# Altium schematic symbol library HV9006_MEASUREBOARD.SCHLIB: 178 symbols
Pins are listed as number, name and electrical type; pins without a type are passive.

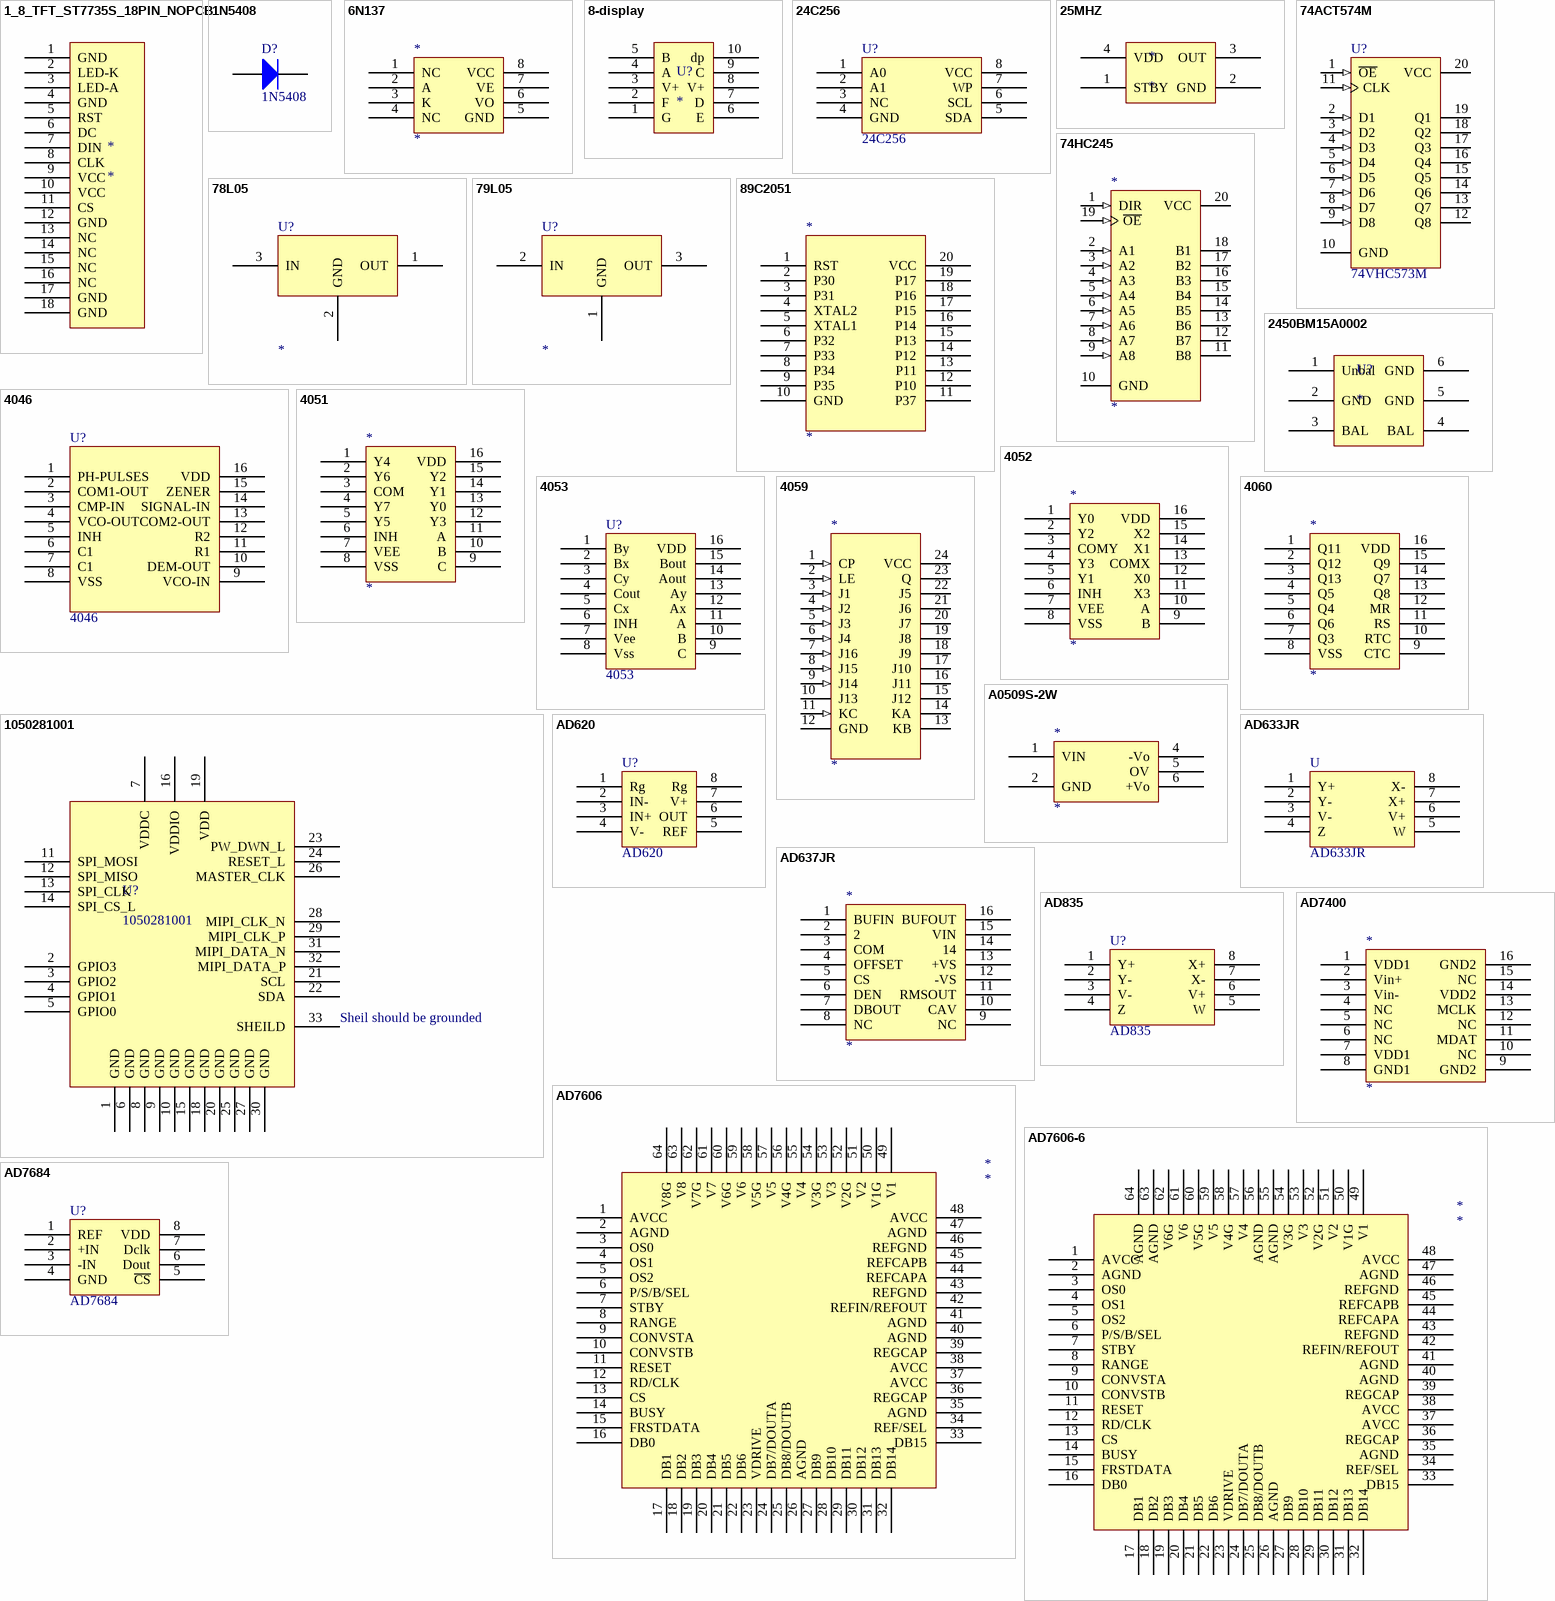
[diagram p0: symbols 1_8_TFT_ST7735S_18PIN_NOPCB to AD7684]

## 1_8_TFT_ST7735S_18PIN_NOPCB
designator *
pins: 1 GND, 2 LED-K, 3 LED-A, 4 GND, 5 RST, 6 DC, 7 DIN, 8 CLK, 9 VCC, 10 VCC, 11 CS, 12 GND, 13 NC, 14 NC, 15 NC, 16 NC, 17 GND, 18 GND

## 1N5408
designator D?
Manufacturer: Generic Components; Class: Discrete; SubClass: Diode - Switching; Published: 08/06/2000; Publisher: Altium Hobart Technology Centre
footprint 1N5408
footprint SMD0603
footprint SMD0805
footprint SOD-123
pins: 1 A, 2 K

## 6N137
designator *
footprint DIP8 (Model Description)
pins: 1 NC, 2 A, 3 K, 4 NC, 5 GND, 6 VO, 7 VE, 8 VCC

## 8-display
designator U?
footprint 7SEG-CA
pins: 1 G, 2 F, 3 V+, 4 A, 5 B, 6 E, 7 D, 8 V+, 9 C, 10 dp

## 24C256
designator U?
footprint SOP8 (Model Description)
pins: 1 A0, 2 A1, 3 NC, 4 GND, 5 SDA, 6 SCL, 7 WP, 8 VCC

## 25MHZ
designator *
footprint 25MHZ
pins: 1 STBY, 2 GND, 3 OUT, 4 VDD

## 74ACT574M
designator U?, comment 74VHC573M
Octal D-Type Flip-Flop with 3-State Output Non Inverting; Manufacturer: ST-Microelectronics; Class: Logic; Published: 08/06/2000; Publisher: Altium Hobart Technology Centre; SubClass: Flip-Flop
footprint SOP20
signal-integrity model 74ACT574M
pins: 1 ~{OE} (in), 2 D1 (in), 3 D2 (in), 4 D3 (in), 5 D4 (in), 6 D5 (in), 7 D6 (in), 8 D7 (in), 9 D8 (in), 10 GND (power), 11 CLK (in), 12 Q8 (hiz), 13 Q7 (hiz), 14 Q6 (hiz), 15 Q5 (hiz), 16 Q4 (hiz), 17 Q3 (hiz), 18 Q2 (hiz), 19 Q1 (hiz), 20 VCC (power)

## 74HC245
designator *
footprint SOP20 (Model Description)
pins: 1 DIR (in), 2 A1 (in), 3 A2 (in), 4 A3 (in), 5 A4 (in), 6 A5 (in), 7 A6 (in), 8 A7 (in), 9 A8 (in), 10 GND (power), 11 B8 (hiz), 12 B7 (hiz), 13 B6 (hiz), 14 B5 (hiz), 15 B4 (hiz), 16 B3 (hiz), 17 B2 (hiz), 18 B1 (hiz), 19 ~{OE} (in), 20 VCC (power)

## 78L05
designator U?
footprint SOT89 (Model Description)
pins: 1 OUT, 2 GND, 3 IN

## 79L05
designator U?
footprint SOT89 (Model Description)
pins: 1 GND, 2 IN, 3 OUT

## 89C2051
designator *
footprint DIP20 (Model Description)
pins: 1 RST, 2 P30, 3 P31, 4 XTAL2, 5 XTAL1, 6 P32, 7 P33, 8 P34, 9 P35, 10 GND, 11 P37, 12 P10, 13 P11, 14 P12, 15 P13, 16 P14, 17 P15, 18 P16, 19 P17, 20 VCC

## 2450BM15A0002
designator U?
footprint 2450BM15A0002
pins: 1 Unbal, 2 GND, 3 BAL, 4 BAL, 5 GND, 6 GND

## 4046
designator U?
footprint SOP16 (Model Description)
pins: 1 PH-PULSES, 2 COM1-OUT, 3 CMP-IN, 4 VCO-OUT, 5 INH, 6 C1, 7 C1, 8 VSS, 9 VCO-IN, 10 DEM-OUT, 11 R1, 12 R2, 13 COM2-OUT, 14 SIGNAL-IN, 15 ZENER, 16 VDD

## 4051
designator *
pins: 1 Y4, 2 Y6, 3 COM, 4 Y7, 5 Y5, 6 INH, 7 VEE, 8 VSS, 9 C, 10 B, 11 A, 12 Y3, 13 Y0, 14 Y1, 15 Y2, 16 VDD

## 4052
designator *
footprint SOP16 (Model Description)
pins: 1 Y0, 2 Y2, 3 COMY, 4 Y3, 5 Y1, 6 INH, 7 VEE, 8 VSS, 9 B, 10 A, 11 X3, 12 X0, 13 COMX, 14 X1, 15 X2, 16 VDD

## 4053
designator U?
footprint SOP16 (Model Description)
pins: 1 By, 2 Bx, 3 Cy, 4 Cout, 5 Cx, 6 INH, 7 Vee, 8 Vss, 9 C, 10 B, 11 A, 12 Ax, 13 Ay, 14 Aout, 15 Bout, 16 VDD

## 4059
designator *
footprint SOP24 (Model Description)
pins: 1 CP (in), 2 LE (in), 3 J1 (in), 4 J2 (in), 5 J3 (in), 6 J4 (in), 7 J16 (in), 8 J15 (in), 9 J14 (in), 10 J13 (power), 11 KC (in), 12 GND (hiz), 13 KB (hiz), 14 KA (hiz), 15 J12 (hiz), 16 J11 (hiz), 17 J10 (hiz), 18 J9 (hiz), 19 J8 (hiz), 20 J7 (power), 21 J6, 22 J5, 23 Q, 24 VCC

## 4060
designator *
footprint SOP16 (Model Description)
pins: 1 Q11, 2 Q12, 3 Q13, 4 Q5, 5 Q4, 6 Q6, 7 Q3, 8 VSS, 9 CTC, 10 RTC, 11 RS, 12 MR, 13 Q8, 14 Q7, 15 Q9, 16 VDD

## 1050281001
designator U?
footprint FLIR_Camera_Socket
pins: 1 GND, 2 GPIO3, 3 GPIO2, 4 GPIO1, 5 GPIO0, 6 GND, 7 VDDC, 8 GND, 9 GND, 10 GND, 11 SPI_MOSI, 12 SPI_MISO, 13 SPI_CLK, 14 SPI_CS_L, 15 GND, 16 VDDIO, 18 GND, 19 VDD, 20 GND, 21 SCL, 22 SDA, 23 PW_DWN_L, 24 RESET_L, 25 GND, 26 MASTER_CLK, 27 GND, 28 MIPI_CLK_N, 29 MIPI_CLK_P, 30 GND, 31 MIPI_DATA_N, 32 MIPI_DATA_P, 33 SHEILD, 34 hidden to GND, 35 hidden to GND, 36 hidden to GND, 37 hidden to GND, 38 hidden to GND, 39 hidden to GND, 40 hidden to GND, 41 hidden to GND, 42 hidden to GND, 43 hidden to GND, 44 hidden to GND, 45 hidden to GND, 46 hidden to GND, 47 hidden to GND, 48 hidden to GND, 49 hidden to GND, 50 hidden to GND, 51 hidden to GND, 52 hidden to GND, 53 hidden to GND, 54 hidden to GND, 55 hidden to GND, 56 hidden to GND, 57 hidden to GND, 58 hidden to GND, 59 hidden to GND, 60 hidden to GND, 61 hidden to GND, 62 hidden to GND, 63 hidden to GND, 64 hidden to GND, 65 hidden to GND, 66 hidden to GND, 67 hidden to GND, 68 hidden to GND
text: Sheil should be grounded

## A0509S-2W
designator *
footprint A_S-2W (Model Description)
pins: 1 VIN, 2 GND, 4 -Vo, 5 OV, 6 +Vo

## AD620
designator U?
footprint DIP8 (Model Description)
pins: 1 Rg, 2 IN-, 3 IN+, 4 V-, 5 REF, 6 OUT, 7 V+, 8 Rg

## AD633JR
designator U
footprint SOP8 (Model Description)
pins: 1 Y+, 2 Y-, 3 V-, 4 Z, 5 W, 6 V+, 7 X+, 8 X-

## AD637JR
designator *
footprint SOP16A (Model Description)
pins: 1 BUFIN, 2, 3 COM, 4 OFFSET, 5 CS, 6 DEN, 7 DBOUT, 8 NC, 9 NC, 10 CAV, 11 RMSOUT, 12 -VS, 13 +VS, 14, 15 VIN, 16 BUFOUT

## AD835
designator U?
footprint SOP8
pins: 1 Y+, 2 Y-, 3 V-, 4 Z, 5 W, 6 V+, 7 X-, 8 X+

## AD7400
designator *
pins: 1 VDD1, 2 Vin+, 3 Vin-, 4 NC, 5 NC, 6 NC, 7 VDD1, 8 GND1, 9 GND2, 10 NC, 11 MDAT, 12 NC, 13 MCLK, 14 VDD2, 15 NC, 16 GND2

## AD7606
designator *
footprint TQFP64 (Model Description)
pins: 1 AVCC, 2 AGND, 3 OS0, 4 OS1, 5 OS2, 6 P/S/B/SEL, 7 STBY, 8 RANGE, 9 CONVSTA, 10 CONVSTB, 11 RESET, 12 RD/CLK, 13 CS, 14 BUSY, 15 FRSTDATA, 16 DB0, 17 DB1, 18 DB2, 19 DB3, 20 DB4, 21 DB5, 22 DB6, 23 VDRIVE, 24 DB7/DOUTA, 25 DB8/DOUTB, 26 AGND, 27 DB9, 28 DB10, 29 DB11, 30 DB12, 31 DB13, 32 DB14, 33 DB15, 34 REF/SEL, 35 AGND, 36 REGCAP, 37 AVCC, 38 AVCC, 39 REGCAP, 40 AGND, 41 AGND, 42 REFIN/REFOUT, 43 REFGND, 44 REFCAPA, 45 REFCAPB, 46 REFGND, 47 AGND, 48 AVCC, 49 V1, 50 V1G, 51 V2, 52 V2G, 53 V3, 54 V3G, 55 V4, 56 V4G, 57 V5, 58 V5G, 59 V6, 60 V6G, 61 V7, 62 V7G, 63 V8, 64 V8G

## AD7606-6
designator *
footprint TQFP64 (Model Description)
pins: 1 AVCC, 2 AGND, 3 OS0, 4 OS1, 5 OS2, 6 P/S/B/SEL, 7 STBY, 8 RANGE, 9 CONVSTA, 10 CONVSTB, 11 RESET, 12 RD/CLK, 13 CS, 14 BUSY, 15 FRSTDATA, 16 DB0, 17 DB1, 18 DB2, 19 DB3, 20 DB4, 21 DB5, 22 DB6, 23 VDRIVE, 24 DB7/DOUTA, 25 DB8/DOUTB, 26 AGND, 27 DB9, 28 DB10, 29 DB11, 30 DB12, 31 DB13, 32 DB14, 33 DB15, 34 REF/SEL, 35 AGND, 36 REGCAP, 37 AVCC, 38 AVCC, 39 REGCAP, 40 AGND, 41 AGND, 42 REFIN/REFOUT, 43 REFGND, 44 REFCAPA, 45 REFCAPB, 46 REFGND, 47 AGND, 48 AVCC, 49 V1, 50 V1G, 51 V2, 52 V2G, 53 V3, 54 V3G, 55 AGND, 56 AGND, 57 V4, 58 V4G, 59 V5, 60 V5G, 61 V6, 62 V6G, 63 AGND, 64 AGND

## AD7684
designator U?
footprint MS8 (Model Description)
pins: 1 REF, 2 +IN, 3 -IN, 4 GND (power), 5 ~{CS}, 6 Dout, 7 Dclk, 8 VDD (power)

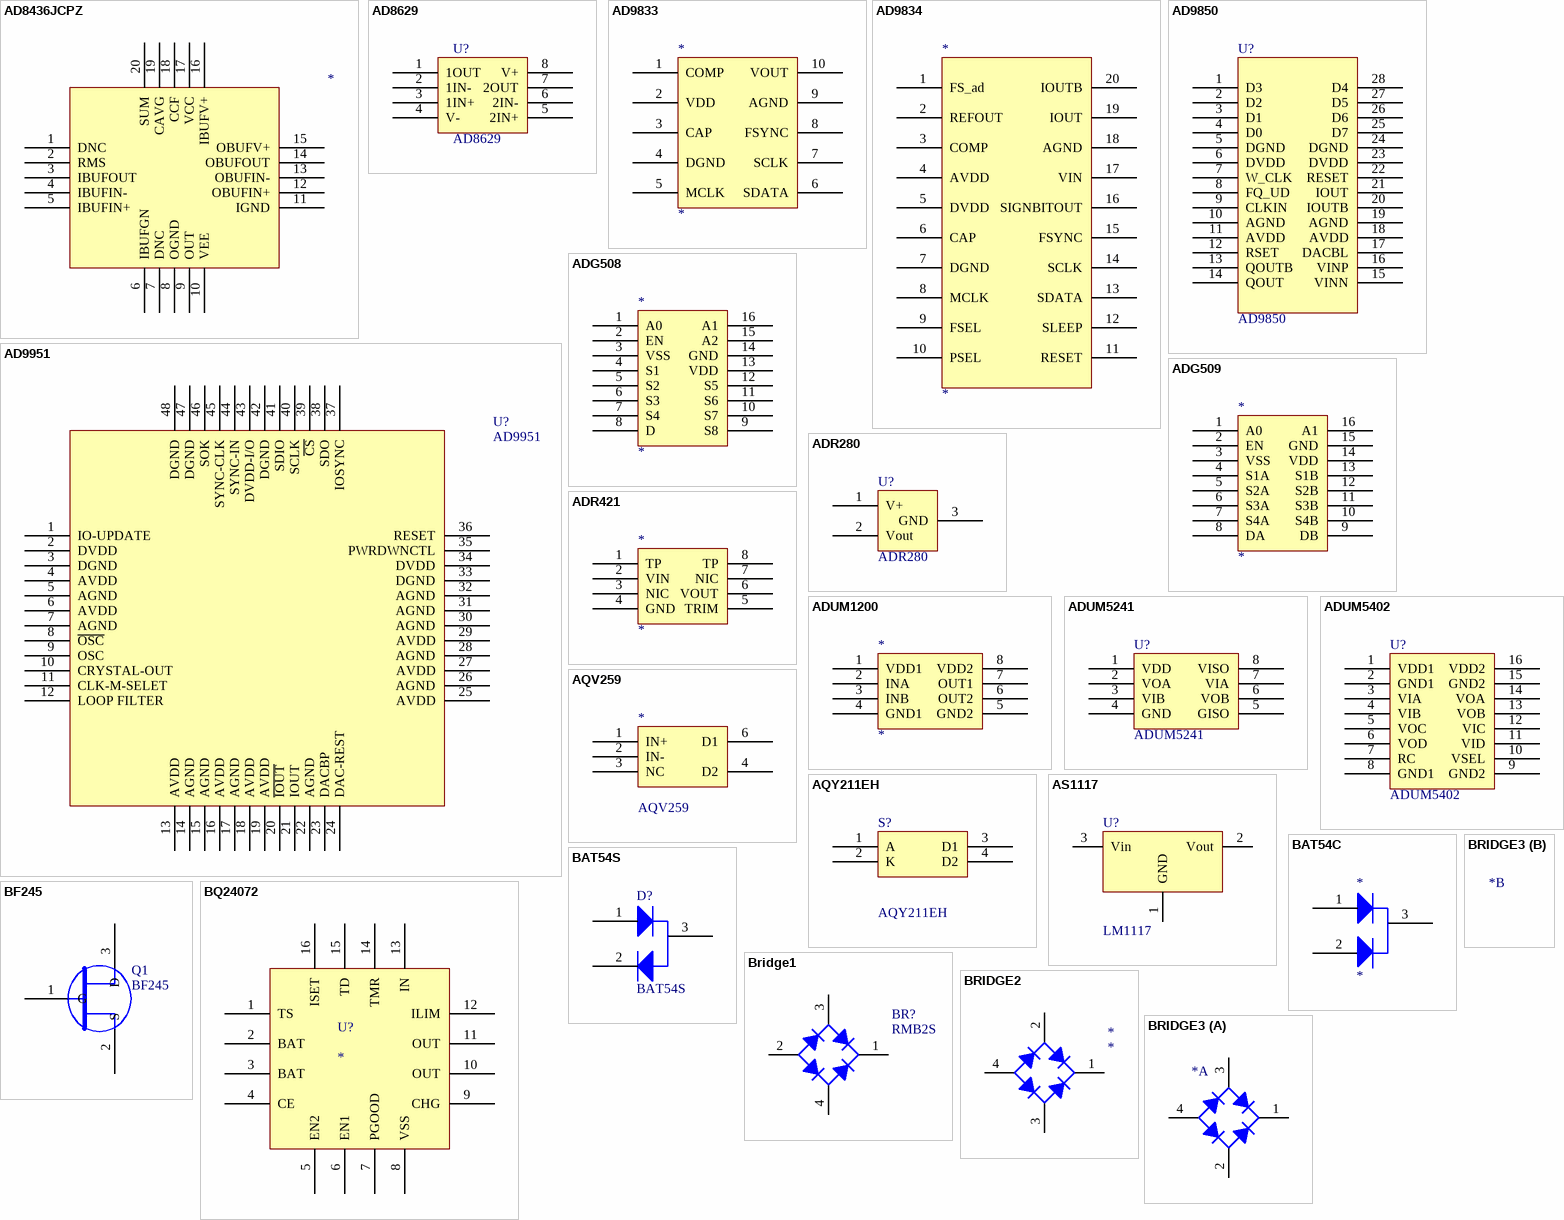
[diagram p1: symbols AD8436JCPZ to BRIDGE3]

## AD8436JCPZ
designator *
footprint CP-20-10 (Model Description)
pins: 1 DNC, 2 RMS, 3 IBUFOUT, 4 IBUFIN-, 5 IBUFIN+, 6 IBUFGN, 7 DNC, 8 OGND, 9 OUT, 10 VEE, 11 IGND, 12 OBUFIN+, 13 OBUFIN-, 14 OBUFOUT, 15 OBUFV+, 16 IBUFV+, 17 VCC, 18 CCF, 19 CAVG, 20 SUM

## AD8629
designator U?
footprint SOP8 (Model Description)
pins: 1 1OUT, 2 1IN-, 3 1IN+, 4 V-, 5 2IN+, 6 2IN-, 7 2OUT, 8 V+

## AD9833
designator *
footprint MS10 (Model Description)
pins: 1 COMP, 2 VDD, 3 CAP, 4 DGND, 5 MCLK, 6 SDATA, 7 SCLK, 8 FSYNC, 9 AGND, 10 VOUT

## AD9834
designator *
footprint MS20 (Model Description)
pins: 1 FS_ad, 2 REFOUT, 3 COMP, 4 AVDD, 5 DVDD, 6 CAP, 7 DGND, 8 MCLK, 9 FSEL, 10 PSEL, 11 RESET, 12 SLEEP, 13 SDATA, 14 SCLK, 15 FSYNC, 16 SIGNBITOUT, 17 VIN, 18 AGND, 19 IOUT, 20 IOUTB

## AD9850
designator U?
footprint SSOP28
footprint SOP28
pins: 1 D3, 2 D2, 3 D1, 4 D0, 5 DGND, 6 DVDD, 7 W_CLK, 8 FQ_UD, 9 CLKIN, 10 AGND, 11 AVDD, 12 RSET, 13 QOUTB, 14 QOUT, 15 VINN, 16 VINP, 17 DACBL, 18 AVDD, 19 AGND, 20 IOUTB, 21 IOUT, 22 RESET, 23 DVDD, 24 DGND, 25 D7, 26 D6, 27 D5, 28 D4

## AD9951
designator U?
footprint TQFP48 (Model Description)
pins: 1 IO-UPDATE, 2 DVDD, 3 DGND, 4 AVDD, 5 AGND, 6 AVDD, 7 AGND, 8 ~{OSC}, 9 OSC, 10 CRYSTAL-OUT, 11 CLK-M-SELET, 12 LOOP FILTER, 13 AVDD, 14 AGND, 15 AGND, 16 AVDD, 17 AGND, 18 AVDD, 19 AVDD, 20 ~{IOUT}, 21 IOUT, 22 AGND, 23 DACBP, 24 DAC-REST, 25 AVDD, 26 AGND, 27 AVDD, 28 AGND, 29 AVDD, 30 AGND, 31 AGND, 32 AGND, 33 DGND, 34 DVDD, 35 PWRDWNCTL, 36 RESET, 37 IOSYNC, 38 SDO, 39 ~{CS}, 40 SCLK, 41 SDIO, 42 DGND, 43 DVDD-I/O, 44 SYNC-IN, 45 SYNC-CLK, 46 SOK, 47 DGND, 48 DGND

## ADG508
designator *
footprint SOP16 (Model Description)
pins: 1 A0, 2 EN, 3 VSS, 4 S1, 5 S2, 6 S3, 7 S4, 8 D, 9 S8, 10 S7, 11 S6, 12 S5, 13 VDD, 14 GND, 15 A2, 16 A1

## ADG509
designator *
footprint SOP16 (Model Description)
pins: 1 A0, 2 EN, 3 VSS, 4 S1A, 5 S2A, 6 S3A, 7 S4A, 8 DA, 9 DB, 10 S4B, 11 S3B, 12 S2B, 13 S1B, 14 VDD, 15 GND, 16 A1

## ADR280
designator U?
footprint SOT23 (Model Description)
pins: 1 V+, 2 Vout, 3 GND

## ADR421
designator *
footprint SOP8 (Model Description)
pins: 1 TP, 2 VIN, 3 NIC, 4 GND, 5 TRIM, 6 VOUT, 7 NIC, 8 TP

## ADUM1200
designator *
footprint SOP8 (Model Description)
pins: 1 VDD1, 2 INA, 3 INB, 4 GND1, 5 GND2, 6 OUT2, 7 OUT1, 8 VDD2

## ADUM5241
designator U?
footprint SOP8 (Model Description)
pins: 1 VDD, 2 VOA, 3 VIB, 4 GND, 5 GISO, 6 VOB, 7 VIA, 8 VISO

## ADUM5402
designator U?
footprint SOPW16 (Model Description)
footprint SOPW16 (Model Description)
pins: 1 VDD1 (power), 2 GND1 (power), 3 VIA, 4 VIB, 5 VOC, 6 VOD, 7 RC, 8 GND1 (power), 9 GND2 (power), 10 VSEL, 11 VID, 12 VIC, 13 VOB, 14 VOA, 15 GND2 (power), 16 VDD2 (power)

## AQV259
designator *
footprint DIP6
footprint DIP6 - 1
pins: 1 IN+, 2 IN-, 3 NC, 4 D2, 6 D1

## AQY211EH
designator S?
footprint LSOP4
pins: 1 A, 2 K, 3 D1, 4 D2

## AS1117
designator U?, comment LM1117
footprint SOT223 (Model Description)
pins: 1 GND, 2 Vout, 3 Vin

## BAT54C
designator *
footprint SOT23 (Model Description)
pins: 1, 2, 3

## BAT54S
designator D?
footprint SOT23 (Model Description)
pins: 1, 2, 3

## BF245
designator Q1
footprint TO-92 (Model Description)
pins: 1 G, 2 S, 3 D

## BQ24072
designator U?
footprint QFN16
pins: 1 TS, 2 BAT, 3 BAT, 4 CE, 5 EN2, 6 EN1, 7 PGOOD, 8 VSS, 9 CHG, 10 OUT, 11 OUT, 12 ILIM, 13 IN, 14 TMR, 15 TD, 16 ISET

## Bridge1
designator BR?, comment RMB2S
Full Wave Diode Bridge; Manufacturer: Generic Components; Class: Discrete; SubClass: Rectifier - Bridge; Published: 08/06/2000; Publisher: Altium Hobart Technology Centre
footprint MB2S (Model Description)
pins: 1 K, 2 A, 3 C, 4 C

## BRIDGE2
designator *
footprint BRG1 (Model Description)
pins: 1 K, 2 C, 3 C, 4 A

## BRIDGE3
designator *
footprint BRG2 (Model Description)
part A pins: 1 K, 2 C, 3 C, 4 A

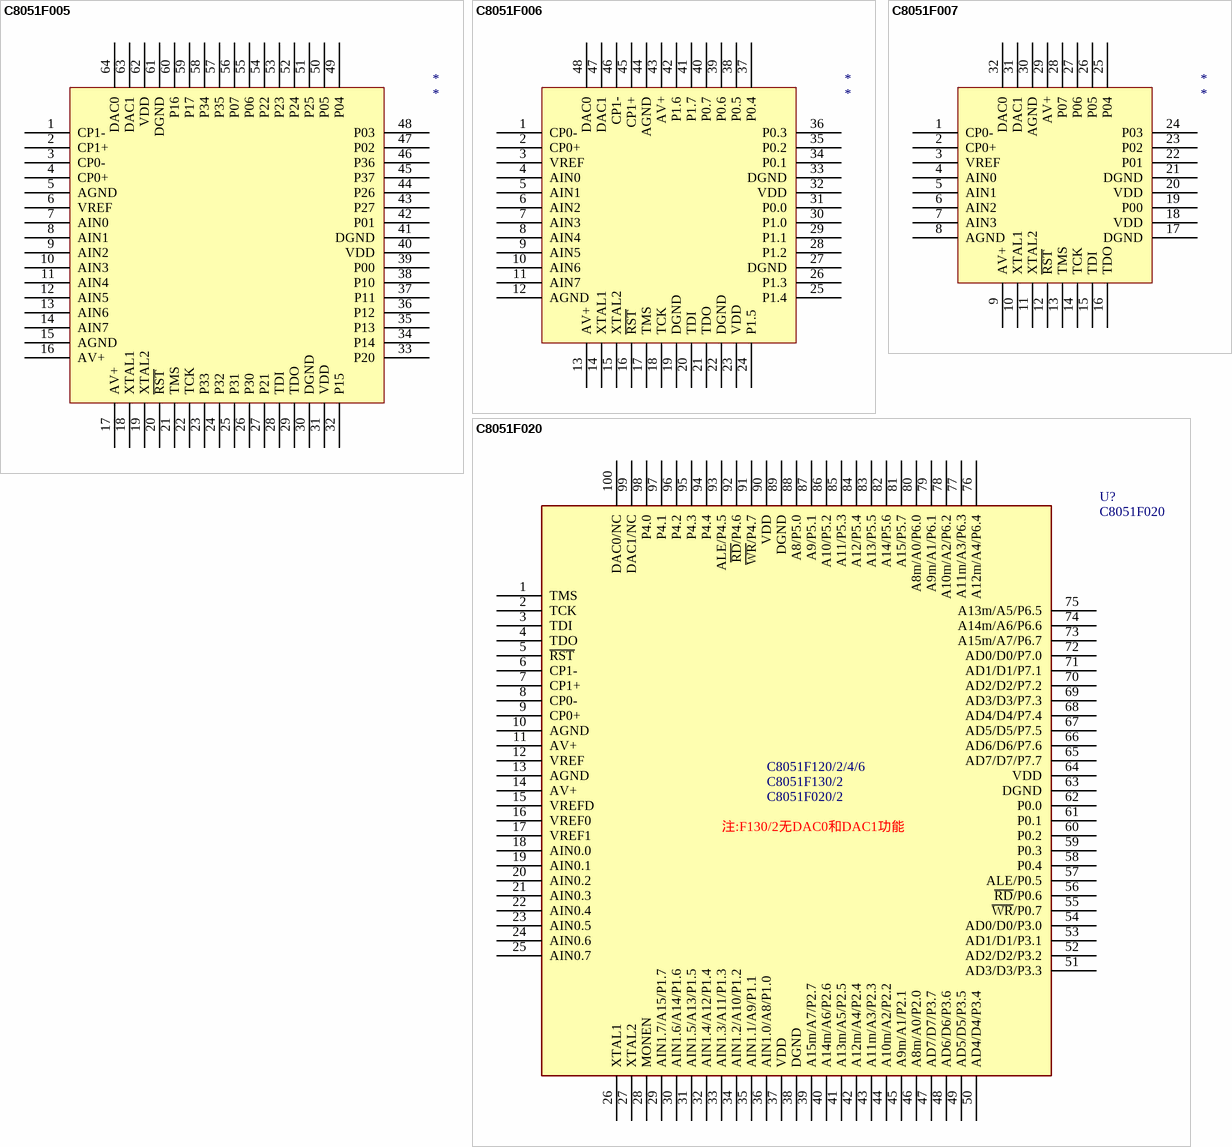
[diagram p2: symbols C8051F005 to C8051F020]

## C8051F005
designator *
footprint TQFP64 (Model Description)
pins: 1 CP1-, 2 CP1+, 3 CP0-, 4 CP0+, 5 AGND, 6 VREF, 7 AIN0, 8 AIN1, 9 AIN2, 10 AIN3, 11 AIN4, 12 AIN5, 13 AIN6, 14 AIN7, 15 AGND, 16 AV+, 17 AV+, 18 XTAL1, 19 XTAL2, 20 ~{RST}, 21 TMS, 22 TCK, 23 P33, 24 P32, 25 P31, 26 P30, 27 P21, 28 TDI, 29 TDO, 30 DGND, 31 VDD, 32 P15, 33 P20, 34 P14, 35 P13, 36 P12, 37 P11, 38 P10, 39 P00, 40 VDD, 41 DGND, 42 P01, 43 P27, 44 P26, 45 P37, 46 P36, 47 P02, 48 P03, 49 P04, 50 P05, 51 P25, 52 P24, 53 P23, 54 P22, 55 P06, 56 P07, 57 P35, 58 P34, 59 P17, 60 P16, 61 DGND, 62 VDD, 63 DAC1, 64 DAC0

## C8051F006
designator *
footprint TQFP48 (Model Description)
pins: 1 CP0-, 2 CP0+, 3 VREF, 4 AIN0, 5 AIN1, 6 AIN2, 7 AIN3, 8 AIN4, 9 AIN5, 10 AIN6, 11 AIN7, 12 AGND, 13 AV+, 14 XTAL1, 15 XTAL2, 16 ~{RST}, 17 TMS, 18 TCK, 19 DGND, 20 TDI, 21 TDO, 22 DGND, 23 VDD, 24 P1.5, 25 P1.4, 26 P1.3, 27 DGND, 28 P1.2, 29 P1.1, 30 P1.0, 31 P0.0, 32 VDD, 33 DGND, 34 P0.1, 35 P0.2, 36 P0.3, 37 P0.4, 38 P0.5, 39 P0.6, 40 P0.7, 41 P1.7, 42 P1.6, 43 AV+, 44 AGND, 45 CP1+, 46 CP1-, 47 DAC1, 48 DAC0

## C8051F007
designator *
pins: 1 CP0-, 2 CP0+, 3 VREF, 4 AIN0, 5 AIN1, 6 AIN2, 7 AIN3, 8 AGND, 9 AV+, 10 XTAL1, 11 XTAL2, 12 ~{RST}, 13 TMS, 14 TCK, 15 TDI, 16 TDO, 17 DGND, 18 VDD, 19 P00, 20 VDD, 21 DGND, 22 P01, 23 P02, 24 P03, 25 P04, 26 P05, 27 P06, 28 P07, 29 AV+, 30 AGND, 31 DAC1, 32 DAC0

## C8051F020
designator U?
footprint TQFP100
pins: 1 TMS, 2 TCK, 3 TDI, 4 TDO, 5 ~{RST}, 6 CP1-, 7 CP1+, 8 CP0-, 9 CP0+, 10 AGND, 11 AV+, 12 VREF, 13 AGND, 14 AV+, 15 VREFD, 16 VREF0, 17 VREF1, 18 AIN0.0, 19 AIN0.1, 20 AIN0.2, 21 AIN0.3, 22 AIN0.4, 23 AIN0.5, 24 AIN0.6, 25 AIN0.7, 26 XTAL1, 27 XTAL2, 28 MONEN, 29 AIN1.7/A15/P1.7, 30 AIN1.6/A14/P1.6, 31 AIN1.5/A13/P1.5, 32 AIN1.4/A12/P1.4, 33 AIN1.3/A11/P1.3, 34 AIN1.2/A10/P1.2, 35 AIN1.1/A9/P1.1, 36 AIN1.0/A8/P1.0, 37 VDD, 38 DGND, 39 A15m/A7/P2.7, 40 A14m/A6/P2.6, 41 A13m/A5/P2.5, 42 A12m/A4/P2.4, 43 A11m/A3/P2.3, 44 A10m/A2/P2.2, 45 A9m/A1/P2.1, 46 A8m/A0/P2.0, 47 AD7/D7/P3.7, 48 AD6/D6/P3.6, 49 AD5/D5/P3.5, 50 AD4/D4/P3.4, 51 AD3/D3/P3.3, 52 AD2/D2/P3.2, 53 AD1/D1/P3.1, 54 AD0/D0/P3.0, 55 ~{WR}/P0.7, 56 ~{RD}/P0.6, 57 ALE/P0.5, 58 P0.4, 59 P0.3, 60 P0.2, 61 P0.1, 62 P0.0, 63 DGND, 64 VDD, 65 AD7/D7/P7.7, 66 AD6/D6/P7.6, 67 AD5/D5/P7.5, 68 AD4/D4/P7.4, 69 AD3/D3/P7.3, 70 AD2/D2/P7.2, 71 AD1/D1/P7.1, 72 AD0/D0/P7.0, 73 A15m/A7/P6.7, 74 A14m/A6/P6.6, 75 A13m/A5/P6.5, 76 A12m/A4/P6.4, 77 A11m/A3/P6.3, 78 A10m/A2/P6.2, 79 A9m/A1/P6.1, 80 A8m/A0/P6.0, 81 A15/P5.7, 82 A14/P5.6, 83 A13/P5.5, 84 A12/P5.4, 85 A11/P5.3, 86 A10/P5.2, 87 A9/P5.1, 88 A8/P5.0, 89 DGND, 90 VDD, 91 ~{WR}/P4.7, 92 ~{RD}/P4.6, 93 ALE/P4.5, 94 P4.4, 95 P4.3, 96 P4.2, 97 P4.1, 98 P4.0, 99 DAC1/NC, 100 DAC0/NC
text: C8051F120/2/4/6; C8051F130/2; C8051F020/2; 注:F130/2无DAC0和DAC1功能

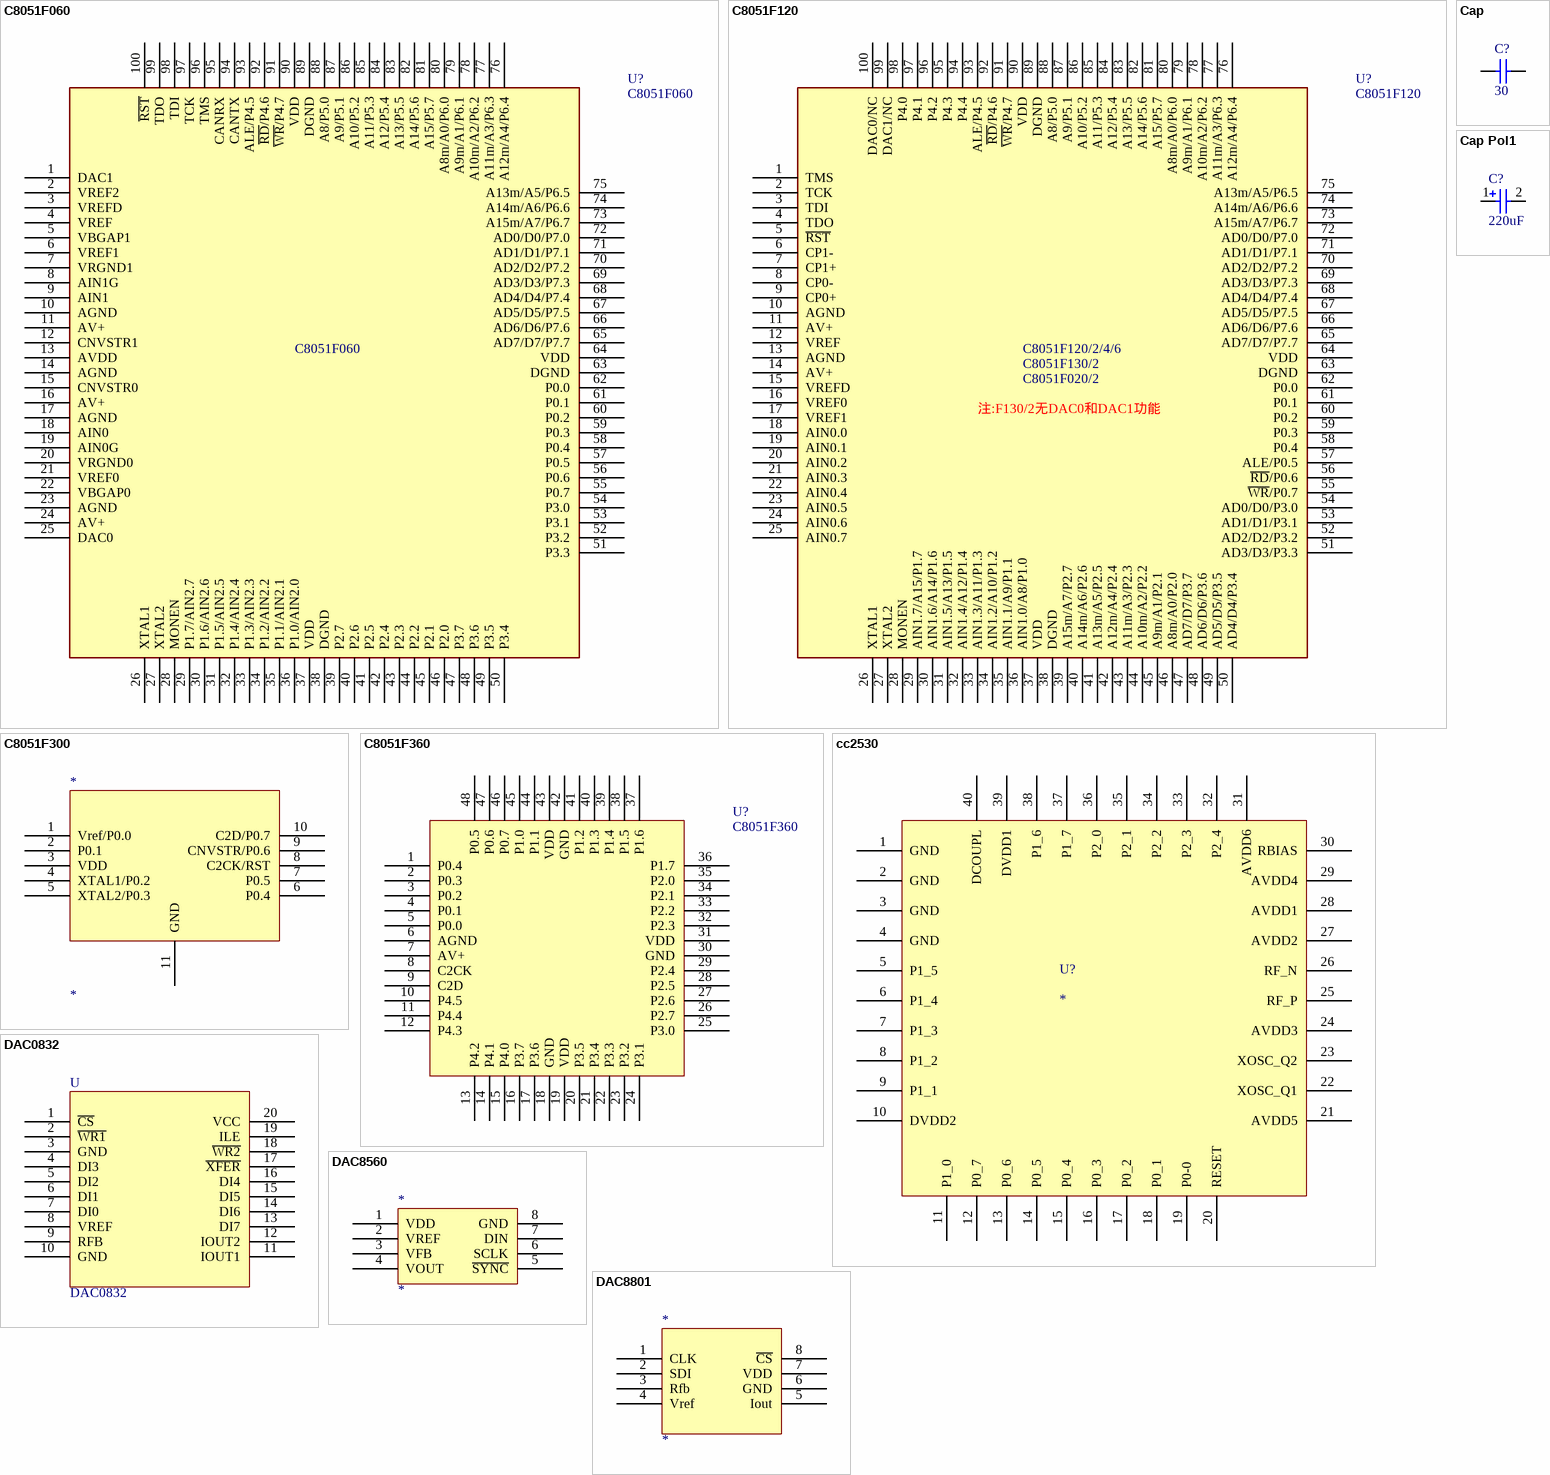
[diagram p3: symbols C8051F060 to DAC8801]

## C8051F060
designator U?
footprint TQFP100 (Model Description)
pins: 1 DAC1, 2 VREF2, 3 VREFD, 4 VREF, 5 VBGAP1, 6 VREF1, 7 VRGND1, 8 AIN1G, 9 AIN1, 10 AGND, 11 AV+, 12 CNVSTR1, 13 AVDD, 14 AGND, 15 CNVSTR0, 16 AV+, 17 AGND, 18 AIN0, 19 AIN0G, 20 VRGND0, 21 VREF0, 22 VBGAP0, 23 AGND, 24 AV+, 25 DAC0, 26 XTAL1, 27 XTAL2, 28 MONEN, 29 P1.7/AIN2.7, 30 P1.6/AIN2.6, 31 P1.5/AIN2.5, 32 P1.4/AIN2.4, 33 P1.3/AIN2.3, 34 P1.2/AIN2.2, 35 P1.1/AIN2.1, 36 P1.0/AIN2.0, 37 VDD, 38 DGND, 39 P2.7, 40 P2.6, 41 P2.5, 42 P2.4, 43 P2.3, 44 P2.2, 45 P2.1, 46 P2.0, 47 P3.7, 48 P3.6, 49 P3.5, 50 P3.4, 51 P3.3, 52 P3.2, 53 P3.1, 54 P3.0, 55 P0.7, 56 P0.6, 57 P0.5, 58 P0.4, 59 P0.3, 60 P0.2, 61 P0.1, 62 P0.0, 63 DGND, 64 VDD, 65 AD7/D7/P7.7, 66 AD6/D6/P7.6, 67 AD5/D5/P7.5, 68 AD4/D4/P7.4, 69 AD3/D3/P7.3, 70 AD2/D2/P7.2, 71 AD1/D1/P7.1, 72 AD0/D0/P7.0, 73 A15m/A7/P6.7, 74 A14m/A6/P6.6, 75 A13m/A5/P6.5, 76 A12m/A4/P6.4, 77 A11m/A3/P6.3, 78 A10m/A2/P6.2, 79 A9m/A1/P6.1, 80 A8m/A0/P6.0, 81 A15/P5.7, 82 A14/P5.6, 83 A13/P5.5, 84 A12/P5.4, 85 A11/P5.3, 86 A10/P5.2, 87 A9/P5.1, 88 A8/P5.0, 89 DGND, 90 VDD, 91 ~{WR}/P4.7, 92 ~{RD}/P4.6, 93 ALE/P4.5, 94 CANTX, 95 CANRX, 96 TMS, 97 TCK, 98 TDI, 99 TDO, 100 ~{RST}

## C8051F120
designator U?
footprint TQFP100
pins: 1 TMS, 2 TCK, 3 TDI, 4 TDO, 5 ~{RST}, 6 CP1-, 7 CP1+, 8 CP0-, 9 CP0+, 10 AGND, 11 AV+, 12 VREF, 13 AGND, 14 AV+, 15 VREFD, 16 VREF0, 17 VREF1, 18 AIN0.0, 19 AIN0.1, 20 AIN0.2, 21 AIN0.3, 22 AIN0.4, 23 AIN0.5, 24 AIN0.6, 25 AIN0.7, 26 XTAL1, 27 XTAL2, 28 MONEN, 29 AIN1.7/A15/P1.7, 30 AIN1.6/A14/P1.6, 31 AIN1.5/A13/P1.5, 32 AIN1.4/A12/P1.4, 33 AIN1.3/A11/P1.3, 34 AIN1.2/A10/P1.2, 35 AIN1.1/A9/P1.1, 36 AIN1.0/A8/P1.0, 37 VDD, 38 DGND, 39 A15m/A7/P2.7, 40 A14m/A6/P2.6, 41 A13m/A5/P2.5, 42 A12m/A4/P2.4, 43 A11m/A3/P2.3, 44 A10m/A2/P2.2, 45 A9m/A1/P2.1, 46 A8m/A0/P2.0, 47 AD7/D7/P3.7, 48 AD6/D6/P3.6, 49 AD5/D5/P3.5, 50 AD4/D4/P3.4, 51 AD3/D3/P3.3, 52 AD2/D2/P3.2, 53 AD1/D1/P3.1, 54 AD0/D0/P3.0, 55 ~{WR}/P0.7, 56 ~{RD}/P0.6, 57 ALE/P0.5, 58 P0.4, 59 P0.3, 60 P0.2, 61 P0.1, 62 P0.0, 63 DGND, 64 VDD, 65 AD7/D7/P7.7, 66 AD6/D6/P7.6, 67 AD5/D5/P7.5, 68 AD4/D4/P7.4, 69 AD3/D3/P7.3, 70 AD2/D2/P7.2, 71 AD1/D1/P7.1, 72 AD0/D0/P7.0, 73 A15m/A7/P6.7, 74 A14m/A6/P6.6, 75 A13m/A5/P6.5, 76 A12m/A4/P6.4, 77 A11m/A3/P6.3, 78 A10m/A2/P6.2, 79 A9m/A1/P6.1, 80 A8m/A0/P6.0, 81 A15/P5.7, 82 A14/P5.6, 83 A13/P5.5, 84 A12/P5.4, 85 A11/P5.3, 86 A10/P5.2, 87 A9/P5.1, 88 A8/P5.0, 89 DGND, 90 VDD, 91 ~{WR}/P4.7, 92 ~{RD}/P4.6, 93 ALE/P4.5, 94 P4.4, 95 P4.3, 96 P4.2, 97 P4.1, 98 P4.0, 99 DAC1/NC, 100 DAC0/NC
text: C8051F120/2/4/6; C8051F130/2; C8051F020/2; 注:F130/2无DAC0和DAC1功能

## C8051F300
designator *
footprint MLP-11 (Model Description)
pins: 1 Vref/P0.0, 2 P0.1, 3 VDD, 4 XTAL1/P0.2, 5 XTAL2/P0.3, 6 P0.4, 7 P0.5, 8 C2CK/RST, 9 CNVSTR/P0.6, 10 C2D/P0.7, 11 GND

## C8051F360
designator U?
footprint TQFP48 (Model Description)
pins: 1 P0.4, 2 P0.3, 3 P0.2, 4 P0.1, 5 P0.0, 6 AGND, 7 AV+, 8 C2CK, 9 C2D, 10 P4.5, 11 P4.4, 12 P4.3, 13 P4.2, 14 P4.1, 15 P4.0, 16 P3.7, 17 P3.6, 18 GND, 19 VDD, 20 P3.5, 21 P3.4, 22 P3.3, 23 P3.2, 24 P3.1, 25 P3.0, 26 P2.7, 27 P2.6, 28 P2.5, 29 P2.4, 30 GND, 31 VDD, 32 P2.3, 33 P2.2, 34 P2.1, 35 P2.0, 36 P1.7, 37 P1.6, 38 P1.5, 39 P1.4, 40 P1.3, 41 P1.2, 42 GND, 43 VDD, 44 P1.1, 45 P1.0, 46 P0.7, 47 P0.6, 48 P0.5

## Cap
designator C?, comment 30
Capacitor; Manufacturer: Generic Components; Class: Passive; Value: 100pF; Published: 08/06/2000; Publisher: Altium Hobart Technology Centre; SubClass: Capacitor
footprint CAP-SMD0805
footprint CAP-SMD1206
footprint CAP-SMD2512
footprint RAD-0.2
footprint CAP-SMD1812
footprint CAP_0603_SMD (Capacitor, Polarized, Chip; 1.60 mm L X 0.80 mm W X 0.89 mm H body)
footprint CAP_0402_SMD (Capacitor, Polarized, Chip; 1.00 mm L X 0.50 mm W X 0.35 mm H body)
pins: 1, 2

## Cap Pol1
designator C?, comment 220uF
Polarized Capacitor (Radial); Manufacturer: Generic Components; Class: Passive; Value: 100pF; Published: 08/06/2000; Publisher: Altium Hobart Technology Centre; SubClass: Capacitor
footprint RB.1/.2 (Model Description)
footprint RB.2/.4
footprint RB.3/.6
footprint RB.4/.8
footprint RB.8/.16
footprint TC7343-2917 (Capacitor, SM Tantalum; Body 7.3 x 4.3 mm (LxW typ))
footprint CAP-SMD6032(C)
pins: 1, 2

## cc2530
designator U?
footprint QFN40
pins: 1 GND, 2 GND, 3 GND, 4 GND, 5 P1_5, 6 P1_4, 7 P1_3, 8 P1_2, 9 P1_1, 10 DVDD2, 11 P1_0, 12 P0_7, 13 P0_6, 14 P0_5, 15 P0_4, 16 P0_3, 17 P0_2, 18 P0_1, 19 P0-0, 20 RESET, 21 AVDD5, 22 XOSC_Q1, 23 XOSC_Q2, 24 AVDD3, 25 RF_P, 26 RF_N, 27 AVDD2, 28 AVDD1, 29 AVDD4, 30 RBIAS, 31 AVDD6, 32 P2_4, 33 P2_3, 34 P2_2, 35 P2_1, 36 P2_0, 37 P1_7, 38 P1_6, 39 DVDD1, 40 DCOUPL

## DAC0832
designator U
footprint SOP20 (Model Description)
pins: 1 ~{CS}, 2 ~{WR1}, 3 GND, 4 DI3, 5 DI2, 6 DI1, 7 DI0, 8 VREF, 9 RFB, 10 GND, 11 IOUT1, 12 IOUT2, 13 DI7, 14 DI6, 15 DI5, 16 DI4, 17 ~{XFER}, 18 ~{WR2}, 19 ILE, 20 VCC

## DAC8560
designator *
footprint MS8 (Model Description)
pins: 1 VDD, 2 VREF, 3 VFB, 4 VOUT, 5 ~{SYNC}, 6 SCLK, 7 DIN, 8 GND

## DAC8801
designator *
footprint MS8 (Model Description)
pins: 1 CLK, 2 SDI, 3 Rfb, 4 Vref, 5 Iout, 6 GND, 7 VDD, 8 ~{CS}

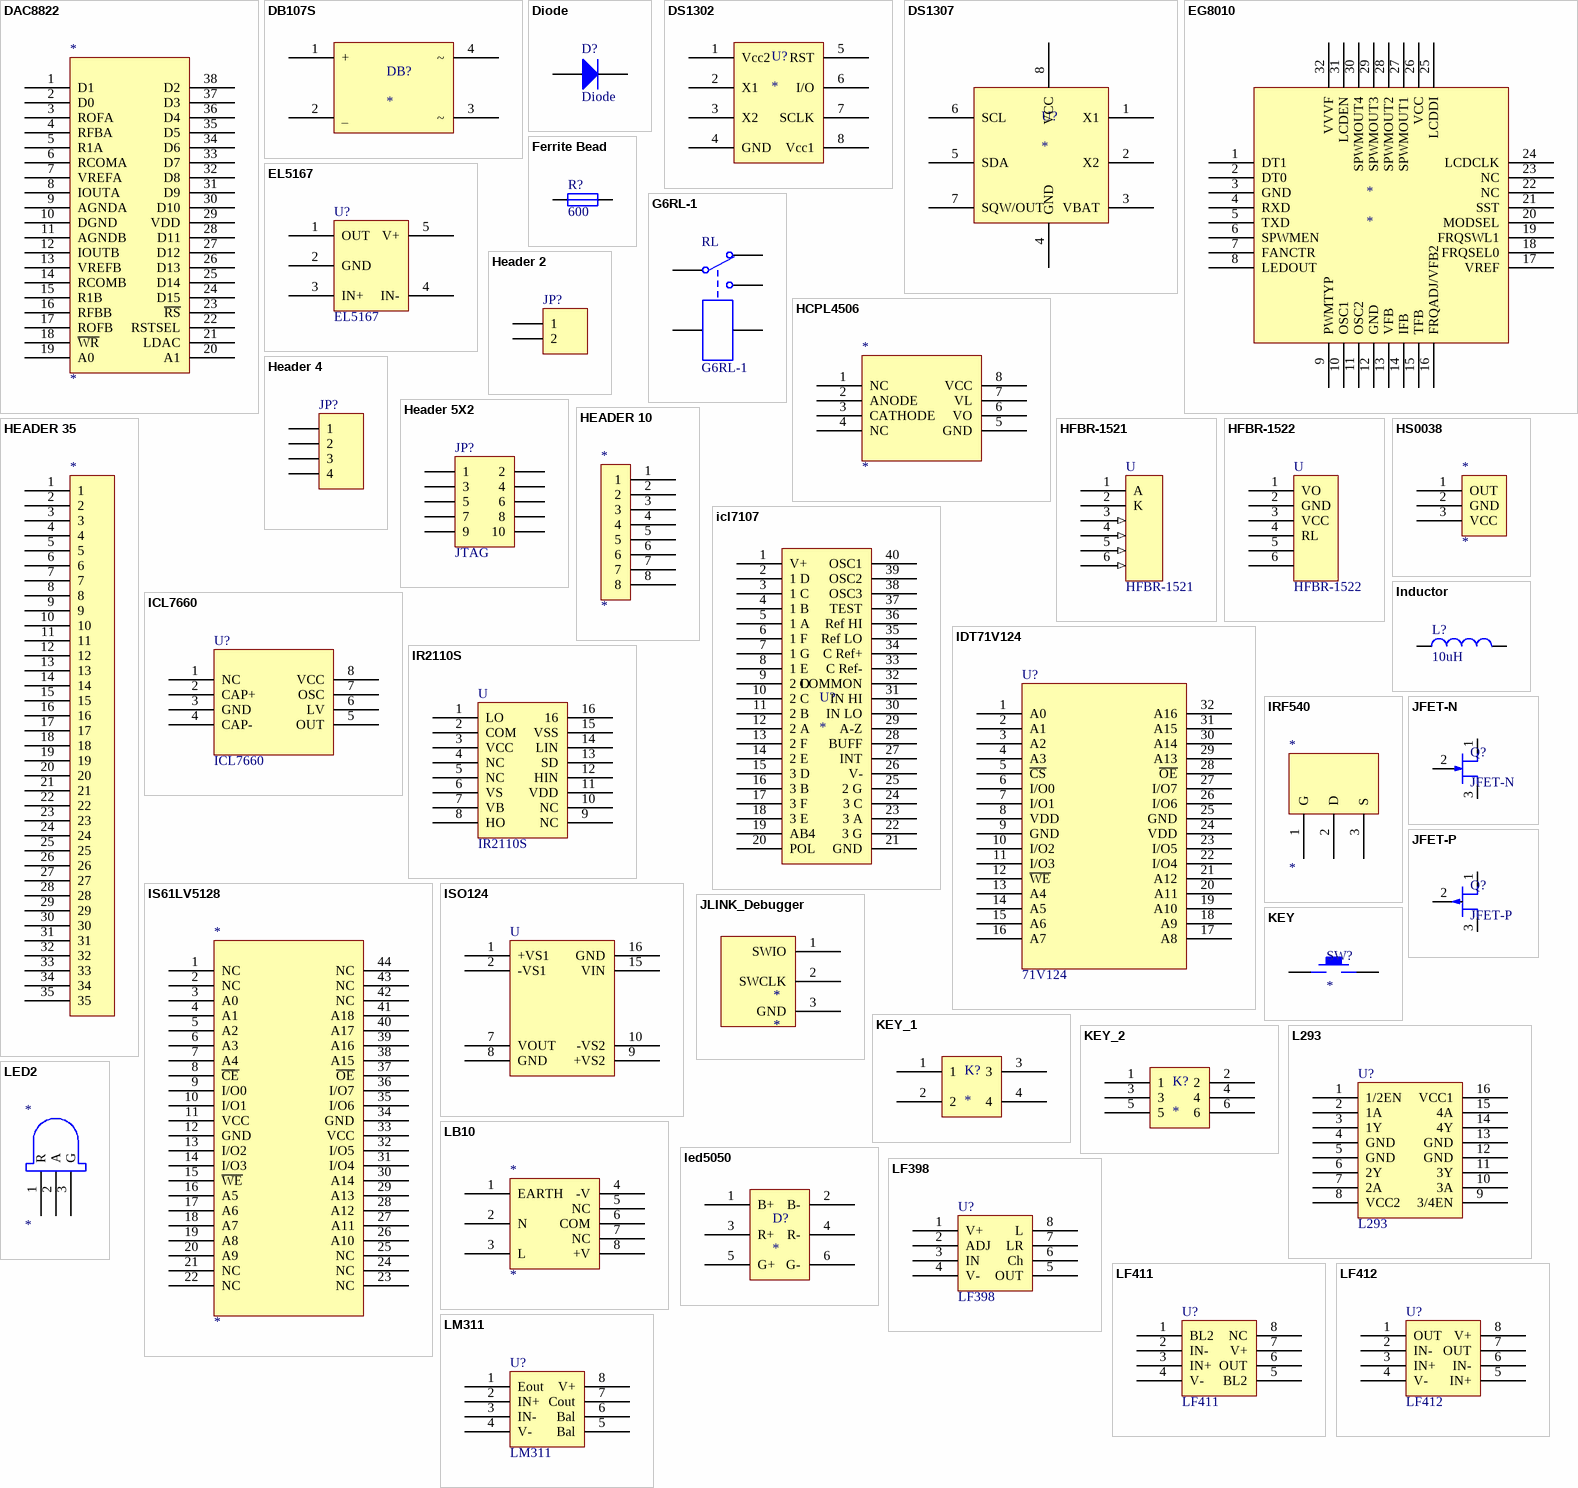
[diagram p4: symbols DAC8822 to LM311]

## DAC8822
designator *
footprint SOP38 (Model Description)
pins: 1 D1, 2 D0, 3 ROFA, 4 RFBA, 5 R1A, 6 RCOMA, 7 VREFA, 8 IOUTA, 9 AGNDA, 10 DGND, 11 AGNDB, 12 IOUTB, 13 VREFB, 14 RCOMB, 15 R1B, 16 RFBB, 17 ROFB, 18 ~{WR}, 19 A0, 20 A1, 21 LDAC, 22 RSTSEL, 23 ~{RS}, 24 D15, 25 D14, 26 D13, 27 D12, 28 D11, 29 VDD, 30 D10, 31 D9, 32 D8, 33 D7, 34 D6, 35 D5, 36 D4, 37 D3, 38 D2

## DB107S
designator DB?
footprint DFS
pins: 1 +, 2 _, 3 ~, 4 ~

## Diode
designator D?
Manufacturer: Generic Components; Class: Discrete; SubClass: Diode - Switching; Published: 08/06/2000; Publisher: Altium Hobart Technology Centre
footprint DO-214AA
footprint DO-214AB
footprint DO-214AC
footprint SMD0603
footprint DIODE-0603
footprint DIO_0402_SMD (Diode, Chip; 1.00 mm L X 0.50 mm W X 0.45 mm H body)
pins: 1 A, 2 K

## DS1302
designator U?
pins: 1 Vcc2, 2 X1, 3 X2, 4 GND, 5 RST, 6 I/O, 7 SCLK, 8 Vcc1

## DS1307
designator U?
pins: 1 X1, 2 X2, 3 VBAT, 4 GND, 5 SDA, 6 SCL, 7 SQW/OUT, 8 VCC

## EG8010
designator *
footprint LQFP32
pins: 1 DT1, 2 DT0, 3 GND, 4 RXD, 5 TXD, 6 SPWMEN, 7 FANCTR, 8 LEDOUT, 9 PWMTYP, 10 OSC1, 11 OSC2, 12 GND, 13 VFB, 14 IFB, 15 TFB, 16 FRQADJ/VFB2, 17 VREF, 18 FRQSEL0, 19 FRQSWL1, 20 MODSEL, 21 SST, 22 NC, 23 NC, 24 LCDCLK, 25 LCDDI, 26 VCC, 27 SPWMOUT1, 28 SPWMOUT2, 29 SPWMOUT3, 30 SPWMOUT4, 31 LCDEN, 32 VVVF

## EL5167
designator U?
footprint SOT-23A
pins: 1 OUT, 2 GND, 3 IN+, 4 IN-, 5 V+

## Ferrite Bead
designator R?, comment 600
Ferrite Bead; Manufacturer: Generic Components; Class: Passive; SubClass: Resistor; Value: 4K7; Published: 08/06/2000; Publisher: Altium Hobart Technology Centre
footprint FB1
pins: 1, 2

## G6RL-1
designator RL
footprint G6RL-1 (Model Description)
pins: 1, 2, 3, 4, 5

## HCPL4506
designator *
footprint DIP8 (Model Description)
pins: 1 NC, 2 ANODE, 3 CATHODE, 4 NC, 5 GND, 6 VO, 7 VL, 8 VCC

## Header 2
designator JP?
Header, 2-Pin; Manufacturer: Generic Components; Class: Connector
footprint 3.96-2 (Model Description)
footprint Header2*1
pins: 1, 2

## Header 4
designator JP?
Header, 4-Pin; Manufacturer: Generic Components; Class: Connector
footprint 3.96-4 (Model Description)
footprint HDR1X4 (Connector; Header; 4 Position)
footprint HDR1X4H (Connector; Header; 4 Position; Right Angle)
pins: 1, 2, 3, 4

## Header 5X2
designator JP?, comment JTAG
Header, 5-Pin, Dual row; Manufacturer: Generic Components; Class: Connector
footprint HEADER5X2 (Model Description)
pins: 1, 2, 3, 4, 5, 6, 7, 8, 9, 10

## HEADER 10
designator *
pins: 1, 2, 3, 4, 5, 6, 7, 8

## HEADER 35
designator *
footprint 2.54-35 (Model Description)
pins: 1, 2, 3, 4, 5, 6, 7, 8, 9, 10, 11, 12, 13, 14, 15, 16, 17, 18, 19, 20, 21, 22, 23, 24, 25, 26, 27, 28, 29, 30, 31, 32, 33, 34, 35

## HFBR-1521
designator U
footprint HFBR-1521
pins: 1 A, 2 K, 3   (in) "NC", 4   (in) "NC", 5   (in) "NC", 6   (in) "NC"

## HFBR-1522
designator U
footprint HFBR-1521
footprint HFBR-1521
pins: 1 VO, 2 GND, 3 VCC, 4 RL, 5  , 6  

## HS0038
designator *
footprint HS0038 (Model Description)
pins: 1 OUT, 2 GND, 3 VCC

## icl7107
designator U?
footprint DIP40
pins: 1 V+, 2 1 D, 3 1 C, 4 1 B, 5 1 A, 6 1 F, 7 1 G, 8 1 E, 9 2 D, 10 2 C, 11 2 B, 12 2 A, 13 2 F, 14 2 E, 15 3 D, 16 3 B, 17 3 F, 18 3 E, 19 AB4, 20 POL, 21 GND, 22 3 G, 23 3 A, 24 3 C, 25 2 G, 26 V-, 27 INT, 28 BUFF, 29 A-Z, 30 IN LO, 31 IN HI, 32 COMMON, 33 C Ref-, 34 C Ref+, 35 Ref LO, 36 Ref HI, 37 TEST, 38 OSC3, 39 OSC2, 40 OSC1

## ICL7660
designator U?
footprint SOP8 (Model Description); pin to pad 6>8
pins: 1 NC, 2 CAP+, 3 GND, 4 CAP-, 5 OUT, 6 LV, 7 OSC, 8 VCC

## IDT71V124
designator U?, comment 71V124
footprint SOP32 (Model Description)
pins: 1 A0, 2 A1, 3 A2, 4 A3, 5 ~{CS}, 6 I/O0, 7 I/O1, 8 VDD, 9 GND, 10 I/O2, 11 I/O3, 12 ~{WE}, 13 A4, 14 A5, 15 A6, 16 A7, 17 A8, 18 A9, 19 A10, 20 A11, 21 A12, 22 I/O4, 23 I/O5, 24 VDD, 25 GND, 26 I/O6, 27 I/O7, 28 ~{OE}, 29 A13, 30 A14, 31 A15, 32 A16

## Inductor
designator L?, comment 10uH
Inductor; Manufacturer: Generic Components; Class: Passive; Value: 10mH; Published: 08/06/2000; Publisher: Altium Hobart Technology Centre; SubClass: Inductor
footprint 2520
footprint INDUCTOR2
footprint INDUCTOR3
footprint INDUCTOR4
footprint Inductor-1
footprint CAP-SMD0603
footprint SMD0402
footprint SMRH8D28-4R7NT
pins: 1, 2

## IR2110S
designator U
ediflib Model Name (Model Description)
footprint SOP16A (Model Description)
pins: 1 LO, 2 COM, 3 VCC, 4 NC, 5 NC, 6 VS, 7 VB, 8 HO, 9 NC, 10 NC, 11 VDD, 12 HIN, 13 SD, 14 LIN, 15 VSS, 16

## IRF540
designator *
footprint TO-220 (Model Description)
pins: 1 G, 2 D, 3 S

## IS61LV5128
designator *
footprint TSOP2-44 (Model Description)
pins: 1 NC, 2 NC, 3 A0, 4 A1, 5 A2, 6 A3, 7 A4, 8 ~{CE}, 9 I/O0, 10 I/O1, 11 VCC, 12 GND, 13 I/O2, 14 I/O3, 15 ~{WE}, 16 A5, 17 A6, 18 A7, 19 A8, 20 A9, 21 NC, 22 NC, 23 NC, 24 NC, 25 NC, 26 A10, 27 A11, 28 A12, 29 A13, 30 A14, 31 I/O4, 32 I/O5, 33 VCC, 34 GND, 35 I/O6, 36 I/O7, 37 ~{OE}, 38 A15, 39 A16, 40 A17, 41 A18, 42 NC, 43 NC, 44 NC

## ISO124
designator U
footprint DIP16-A
pins: 1 +VS1, 2 -VS1, 7 VOUT, 8 GND, 9 +VS2, 10 -VS2, 15 VIN, 16 GND

## JFET-N
designator Q?
footprint TO-92
footprint SOT23-JFET
pins: 1, 2, 3

## JFET-P
designator Q?
footprint TO-92
footprint SOT23-JFET
pins: 1, 2, 3

## JLINK_Debugger
designator *
footprint HDR1X3 (Connector; Header; 3 Position)
pins: 1 SWIO, 2 SWCLK, 3 GND

## KEY
designator SW?
footprint B3U-3000P
pins: 1, 2

## KEY_1
designator K?
footprint KEY-2 (4*4*1.5mm)
pins: 1, 2, 3, 4

## KEY_2
designator K?
footprint KEY3
pins: 1, 2, 3, 4, 5, 6

## L293
designator U?
footprint DIP16 (Model Description)
pins: 1 1/2EN, 2 1A, 3 1Y, 4 GND, 5 GND, 6 2Y, 7 2A, 8 VCC2, 9 3/4EN, 10 3A, 11 3Y, 12 GND, 13 GND, 14 4Y, 15 4A, 16 VCC1

## LB10
designator *
footprint LB10 (Model Description)
pins: 1 EARTH, 2 N, 3 L, 4 -V, 5 NC, 6 COM, 7 NC, 8 +V

## LED2
designator *
footprint LED3 (Model Description)
pins: 1 R, 2 A, 3 G

## led5050
designator D?
footprint led5050
pins: 1 B+, 2 B-, 3 R+, 4 R-, 5 G+, 6 G-

## LF398
designator U?
footprint DIP8 (Model Description)
pins: 1 V+, 2 ADJ, 3 IN, 4 V-, 5 OUT, 6 Ch, 7 LR, 8 L

## LF411
designator U?
footprint DIP8 (Model Description)
pins: 1 BL2, 2 IN-, 3 IN+, 4 V-, 5 BL2, 6 OUT, 7 V+, 8 NC

## LF412
designator U?
footprint DIP8 (Model Description)
pins: 1 OUT, 2 IN-, 3 IN+, 4 V-, 5 IN+, 6 IN-, 7 OUT, 8 V+

## LM311
designator U?
footprint DIP8 (Model Description)
pins: 1 Eout, 2 IN+, 3 IN-, 4 V-, 5 Bal, 6 Bal, 7 Cout, 8 V+

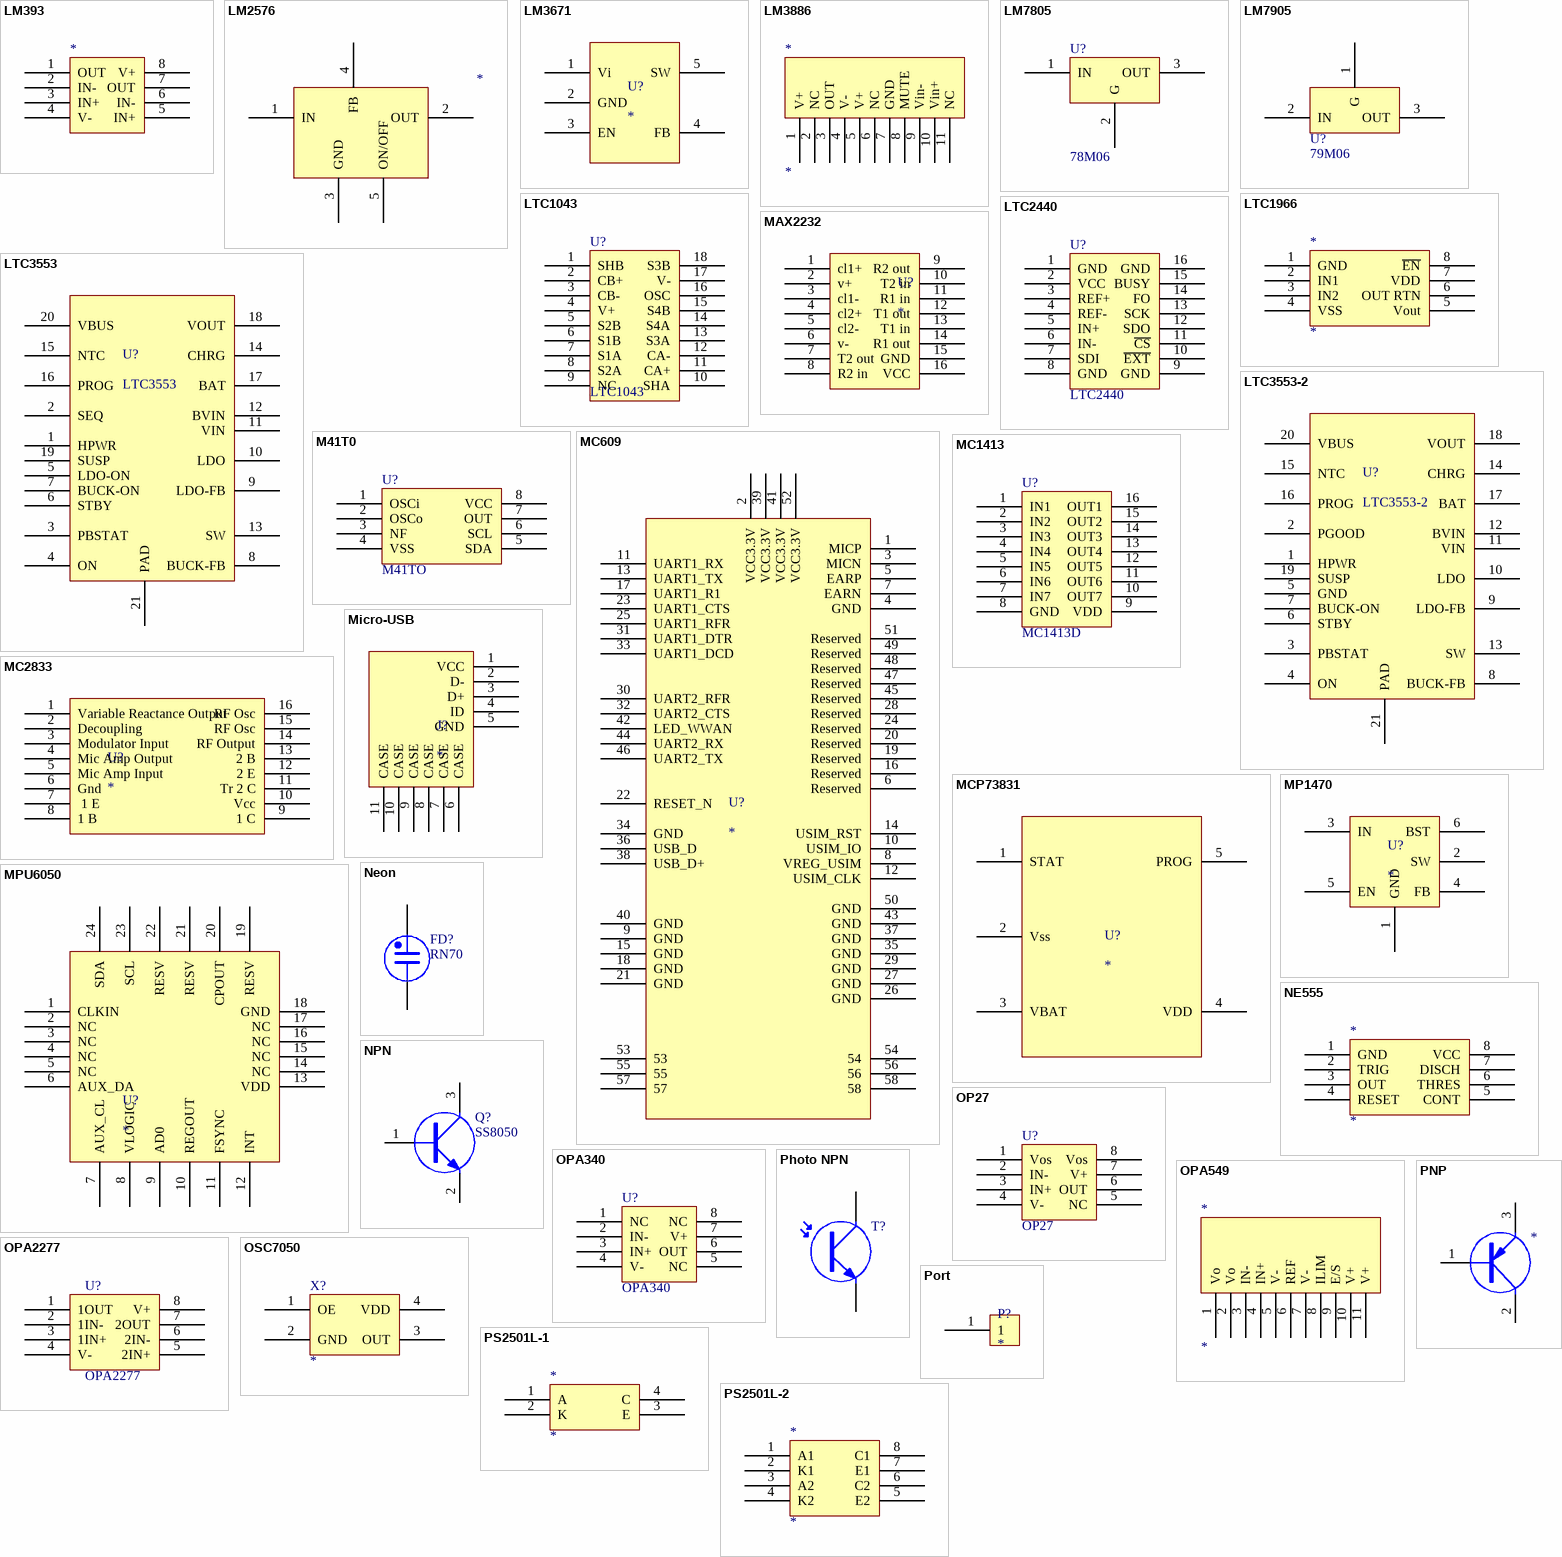
[diagram p5: symbols LM393 to PS2501L-2]

## LM393
designator *
footprint SOP8 (Model Description)
pins: 1 OUT, 2 IN-, 3 IN+, 4 V-, 5 IN+, 6 IN-, 7 OUT, 8 V+

## LM2576
designator *
footprint TO-263-5 (Model Description)
pins: 1 IN, 2 OUT, 3 GND, 4 FB, 5 ON/OFF

## LM3671
designator U?
footprint SOT-23
pins: 1 Vi, 2 GND, 3 EN, 4 FB, 5 SW

## LM3886
designator *
footprint LM3886 (Model Description)
pins: 1 V+, 2 NC, 3 OUT, 4 V-, 5 V+, 6 NC, 7 GND, 8 MUTE, 9 Vin-, 10 Vin+, 11 NC

## LM7805
designator U?, comment 78M06
footprint TO-220
footprint TO-220B
pins: 1 IN, 2 G, 3 OUT

## LM7905
designator U?, comment 79M06
footprint TO-220
footprint TO-220B
pins: 1 G, 2 IN, 3 OUT

## LTC1043
designator U?
footprint SOP18
pins: 1 SHB, 2 CB+, 3 CB-, 4 V+, 5 S2B, 6 S1B, 7 S1A, 8 S2A, 9 NC, 10 SHA, 11 CA+, 12 CA-, 13 S3A, 14 S4A, 15 S4B, 16 OSC, 17 V-, 18 S3B

## LTC1966
designator *
footprint MS8 (Model Description)
pins: 1 GND, 2 IN1, 3 IN2, 4 VSS, 5 Vout, 6 OUT RTN, 7 VDD, 8 ~{EN}

## LTC2440
designator U?
footprint MS16
pins: 1 GND, 2 VCC, 3 REF+, 4 REF-, 5 IN+, 6 IN-, 7 SDI, 8 GND, 9 GND, 10 ~{EXT}, 11 ~{CS}, 12 SDO, 13 SCK, 14 FO, 15 BUSY, 16 GND

## LTC3553
designator U?
footprint QFN20
pins: 1 HPWR, 2 SEQ, 3 PBSTAT, 4 ON, 5 LDO-ON, 6 STBY, 7 BUCK-ON, 8 BUCK-FB, 9 LDO-FB, 10 LDO, 11 VIN, 12 BVIN, 13 SW, 14 CHRG, 15 NTC, 16 PROG, 17 BAT, 18 VOUT, 19 SUSP, 20 VBUS, 21 PAD

## LTC3553-2
designator U?
footprint QFN20
pins: 1 HPWR, 2 PGOOD, 3 PBSTAT, 4 ON, 5 GND, 6 STBY, 7 BUCK-ON, 8 BUCK-FB, 9 LDO-FB, 10 LDO, 11 VIN, 12 BVIN, 13 SW, 14 CHRG, 15 NTC, 16 PROG, 17 BAT, 18 VOUT, 19 SUSP, 20 VBUS, 21 PAD

## M41T0
designator U?, comment M41TO
footprint SOP8 (Model Description)
pins: 1 OSCi, 2 OSCo, 3 NF, 4 VSS, 5 SDA, 6 SCL, 7 OUT, 8 VCC

## MAX2232
designator U?
footprint SOP16
pins: 1 cl1+, 2 v+, 3 cl1-, 4 cl2+, 5 cl2-, 6 v-, 7 T2 out, 8 R2 in, 9 R2 out, 10 T2 in, 11 R1 in, 12 T1 out, 13 T1 in, 14 R1 out, 15 GND, 16 VCC

## MC609
designator U?
footprint PCIE
pins: 1 MICP, 2 VCC3.3V, 3 MICN, 4 GND, 5 EARP, 6 Reserved, 7 EARN, 8 VREG_USIM, 9 GND, 10 USIM_IO, 11 UART1_RX, 12 USIM_CLK, 13 UART1_TX, 14 USIM_RST, 15 GND, 16 Reserved, 17 UART1_R1, 18 GND, 19 Reserved, 20 Reserved, 21 GND, 22 RESET_N, 23 UART1_CTS, 24 Reserved, 25 UART1_RFR, 26 GND, 27 GND, 28 Reserved, 29 GND, 30 UART2_RFR, 31 UART1_DTR, 32 UART2_CTS, 33 UART1_DCD, 34 GND, 35 GND, 36 USB_D, 37 GND, 38 USB_D+, 39 VCC3.3V, 40 GND, 41 VCC3.3V, 42 LED_WWAN, 43 GND, 44 UART2_RX, 45 Reserved, 46 UART2_TX, 47 Reserved, 48 Reserved, 49 Reserved, 50 GND, 51 Reserved, 52 VCC3.3V, 53, 54, 55, 56, 57, 58

## MC1413
designator U?, comment MC1413D
footprint SOP16 (Model Description)
pins: 1 IN1, 2 IN2, 3 IN3, 4 IN4, 5 IN5, 6 IN6, 7 IN7, 8 GND, 9 VDD, 10 OUT7, 11 OUT6, 12 OUT5, 13 OUT4, 14 OUT3, 15 OUT2, 16 OUT1

## MC2833
designator U?
footprint DIP16
pins: 1 Variable Reactance Output, 2 Decoupling, 3 Modulator Input, 4 Mic Amp Output, 5 Mic Amp Input, 6 Gnd, 7  1 E, 8 1 B, 9 1 C, 10 Vcc, 11 Tr 2 C, 12 2 E, 13 2 B, 14 RF Output, 15 RF Osc, 16 RF Osc

## MCP73831
designator U?
footprint SOT-23A
pins: 1 STAT, 2 Vss, 3 VBAT , 4 VDD, 5 PROG

## Micro-USB
designator J?
footprint MIicro-USB
pins: 1 VCC, 2 D-, 3 D+, 4 ID, 5 GND, 6 CASE, 7 CASE, 8 CASE, 9 CASE, 10 CASE, 11 CASE

## MP1470
designator U?
footprint TSOT23-6
pins: 1 GND, 2 SW, 3 IN, 4 FB, 5 EN, 6 BST

## MPU6050
designator U?
footprint QFN24N (QFN, 24-Leads, Body 4.1x4.1mm (max), Pitch 0.50mm, IPC Medium Density)
pins: 1 CLKIN, 2 NC, 3 NC, 4 NC, 5 NC, 6 AUX_DA, 7 AUX_CL, 8 VLOGIC, 9 AD0, 10 REGOUT, 11 FSYNC, 12 INT, 13 VDD, 14 NC, 15 NC, 16 NC, 17 NC, 18 GND, 19 RESV, 20 CPOUT, 21 RESV, 22 RESV, 23 SCL, 24 SDA

## NE555
designator *
footprint DIP8
pins: 1 GND, 2 TRIG, 3 OUT, 4 RESET, 5 CONT, 6 THRES, 7 DISCH, 8 VCC

## Neon
designator FD?, comment RN70
Neon Bulb; Manufacturer: Generic Components; Published: 1999
footprint PIN2
pins: 1, 2

## NPN
designator Q?, comment SS8050
NPN Transistor
footprint SOT23 (Model Description)
pins: 1 B, 2 E, 3 C

## OP27
designator U?
footprint SOP8 (Model Description)
pins: 1 Vos, 2 IN-, 3 IN+, 4 V-, 5 NC, 6 OUT, 7 V+, 8 Vos

## OPA340
designator U?
footprint DIP8 (Model Description)
pins: 1 NC, 2 IN-, 3 IN+, 4 V-, 5 NC, 6 OUT, 7 V+, 8 NC

## OPA549
designator *
footprint KV (Model Description)
pins: 1 Vo, 2 Vo, 3 IN-, 4 IN+, 5 V-, 6 REF, 7 V-, 8 ILIM, 9 E/S, 10 V+, 11 V+

## OPA2277
designator U?
footprint SOP8 (Model Description)
pins: 1 1OUT, 2 1IN-, 3 1IN+, 4 V-, 5 2IN+, 6 2IN-, 7 2OUT, 8 V+

## OSC7050
designator X?
footprint SMD7050 (Model Description)
pins: 1 OE, 2 GND, 3 OUT, 4 VDD

## Photo NPN
designator T?
NPN Phototransistor; Manufacturer: Generic Components; Class: Optoelectronic; Published: 1999
footprint SFM-T2(3)/X1.6V (TO-220-AC)
pins: 1 C, 3 E

## PNP
designator *
pins: 1 B, 2 E, 3 C

## Port
designator P?
footprint port
pins: 1

## PS2501L-1
designator *
footprint SOP4 (Model Description)
pins: 1 A, 2 K, 3 E, 4 C

## PS2501L-2
designator *
footprint SOP8 (Model Description)
pins: 1 A1, 2 K1, 3 A2, 4 K2, 5 E2, 6 C2, 7 E1, 8 C1

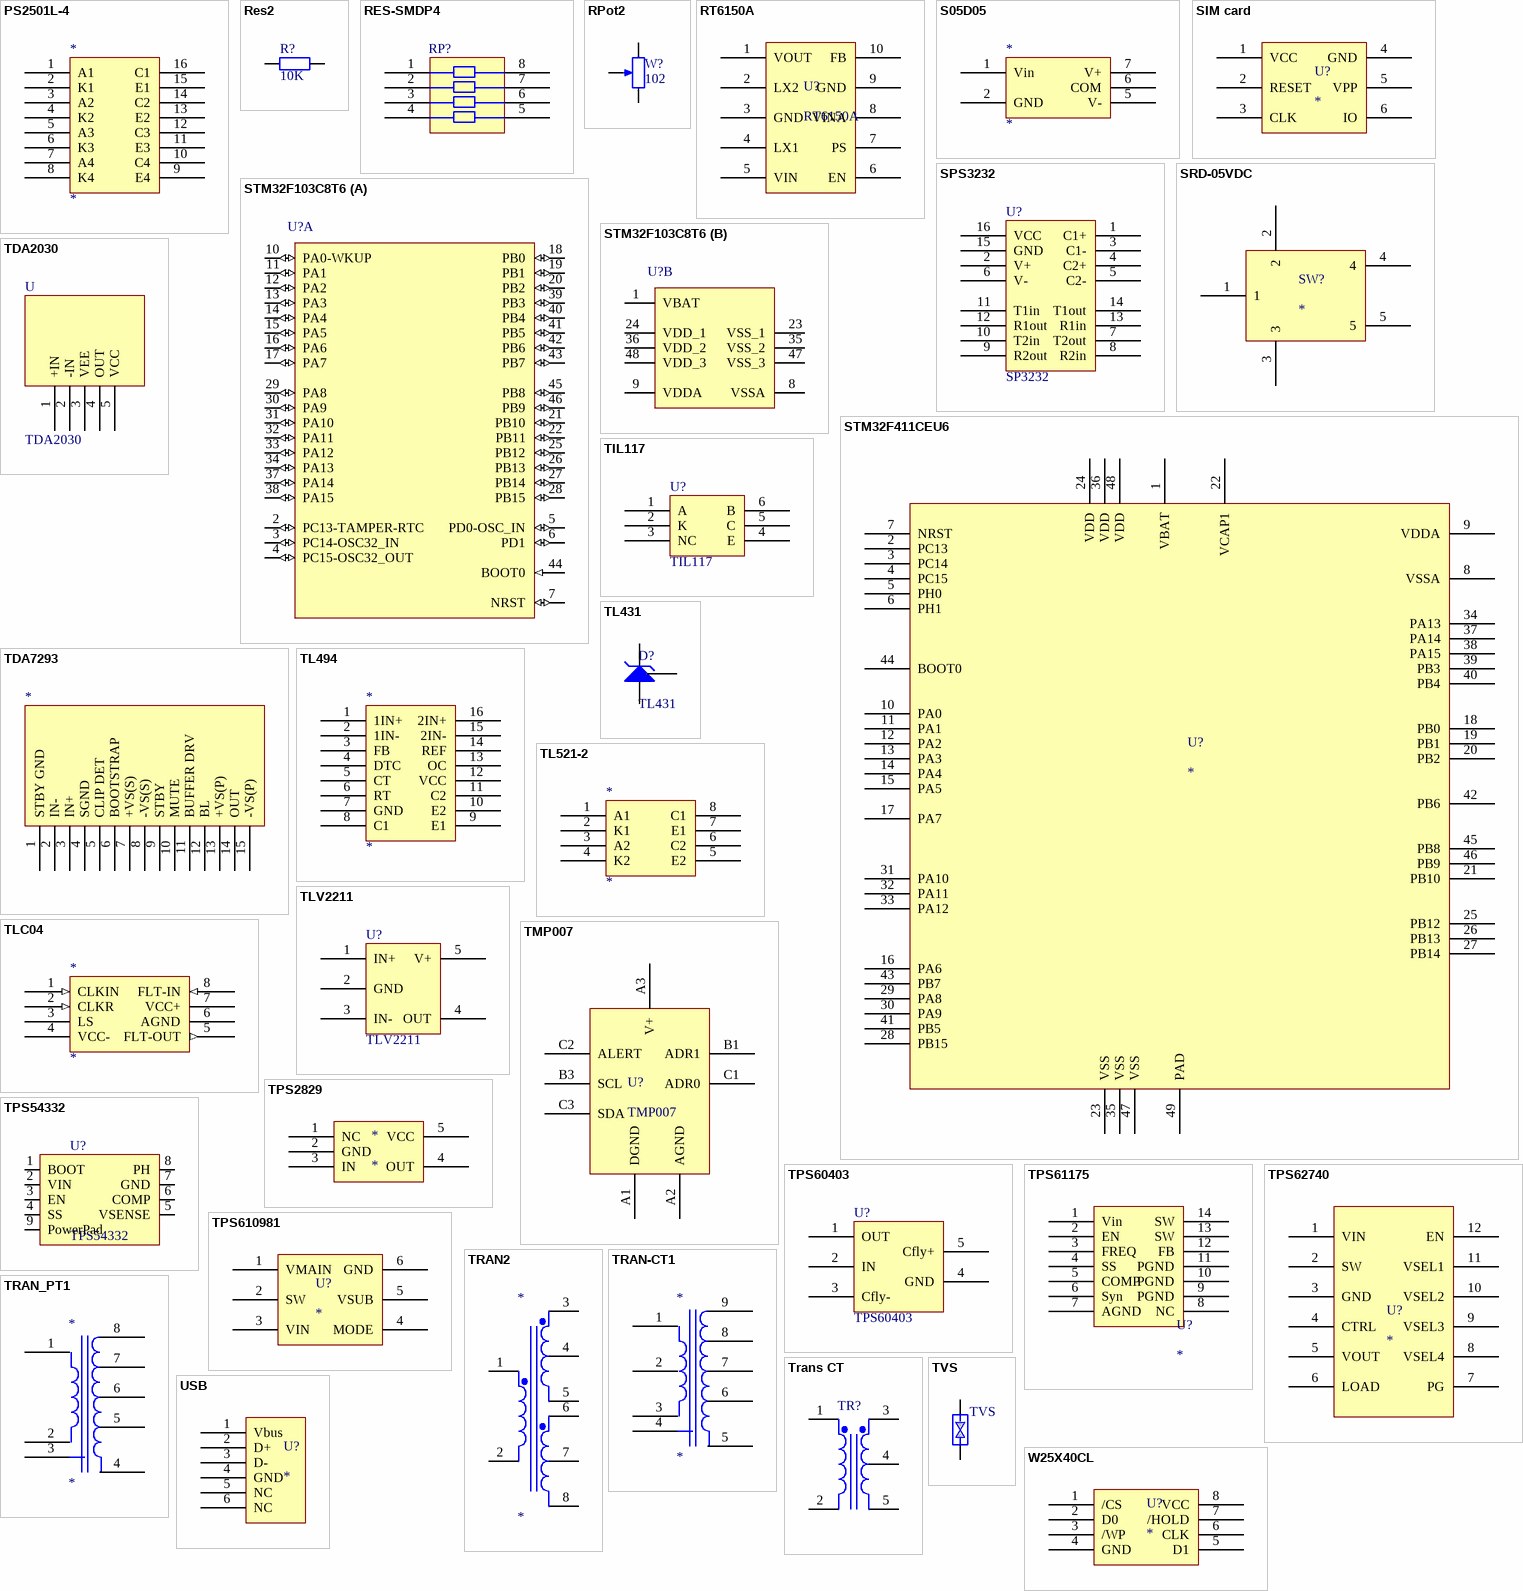
[diagram p6: symbols PS2501L-4 to W25X40CL]

## PS2501L-4
designator *
footprint SOP16 (Model Description)
pins: 1 A1, 2 K1, 3 A2, 4 K2, 5 A3, 6 K3, 7 A4, 8 K4, 9 E4, 10 C4, 11 E3, 12 C3, 13 E2, 14 C2, 15 E1, 16 C1

## Res2
designator R?, comment 10K
Resistor; Manufacturer: Generic Components; Class: Passive; Value: 4K7; Published: 08/06/2000; Publisher: Altium Hobart Technology Centre; SubClass: Resistor
footprint SMD0805
footprint SMD1206
footprint SMD2512
footprint RES_0603_SMD (Resistor, Chip; 1.60 mm L X 0.80 mm W X 0.89 mm H body)
footprint RES_0402_SMD (Resistor, Chip; 1.00 mm L X 0.50 mm W X 0.35 mm H body)
pins: 1, 2

## RES-SMDP4
designator RP?
footprint RES-SMDP4 (Model Description)
pins: 1, 2, 3, 4, 5, 6, 7, 8

## RPot2
designator W?, comment 102
Potentiometer; Manufacturer: Generic Components; Class: Passive; Set Position: 0.5; Value: 1K; Published: 08/06/2000; Publisher: Altium Hobart Technology Centre; SubClass: Potentiometer
footprint VR5 (Model Description)
pins: 1 TOP, 2 BOT, 3 TAP

## RT6150A
designator U?
3*3
footprint DFN10
pins: 1 VOUT, 2 LX2, 3 GND, 4 LX1, 5 VIN, 6 EN, 7 PS, 8 VINA, 9 GND, 10 FB, 11 hidden to GND

## S05D05
designator *
footprint S05D05
pins: 1 Vin, 2 GND, 5 V-, 6 COM, 7 V+

## SIM card
designator U?
footprint SIM3512
pins: 1 VCC, 2 RESET, 3 CLK, 4 GND, 5 VPP, 6 IO

## SPS3232
designator U?, comment SP3232
footprint TSSOP-16 (Model Description)
pins: 1 C1+, 2 V+, 3 C1-, 4 C2+, 5 C2-, 6 V-, 7 T2out, 8 R2in, 9 R2out, 10 T2in, 11 T1in, 12 R1out, 13 R1in, 14 T1out, 15 GND, 16 VCC

## SRD-05VDC
designator SW?
footprint sl-c
pins: 1, 2, 3, 4, 5

## STM32F103C8T6
designator U?
STM32 ARM-based 32-bit MCU Performance Line with 64 kB Flash, 20 kB Internal RAM, -40 to +85癈 Temperature, 48-Pin LQFP, Tray; DatasheetVersion: rev13.0, Apr-2011; PackageVersion: rev13, Apr-2011; PackageReference: LQFP48; PackageDescription: 48-Pin Low-Profile Quad Flat Pack, 7 x 7 mm Body, 0.5 mm Pitch (LQFP48); ComponentLink1Description: Manufacturer URL; ComponentLink1URL: http://www.st.com/; ComponentLink2Description: STM32F103 Datasheet; ComponentLink2URL: http://www.st.com/internet/com/TECHNICAL_RESOURCES/TECHNICAL_LITERATURE/DATASHEET/CD00161566.pdf; ComponentLink3Description: STM32 Family Web Page; ComponentLink3URL: www.st.com/stm32
footprint LQFP48_N (Thin QFP, 48-Leads, Body 7x7mm, Pitch 0.5mm, IPC Medium Density)
footprint LQFP48_L (Thin QFP, 48-Leads, Body 7x7mm, Pitch 0.5mm, IPC High Density)
footprint LQFP48_M (Thin QFP, 48-Leads, Body 7x7mm, Pitch 0.5mm, IPC Low Density)
part A pins: 2 PC13-TAMPER-RTC (io), 3 PC14-OSC32_IN (io), 4 PC15-OSC32_OUT (io), 5 PD0-OSC_IN (io), 6 PD1 (io), 7 NRST (io), 10 PA0-WKUP (io), 11 PA1 (io), 12 PA2 (io), 13 PA3 (io), 14 PA4 (io), 15 PA5 (io), 16 PA6 (io), 17 PA7 (io), 18 PB0 (io), 19 PB1 (io), 20 PB2 (io), 21 PB10 (io), 22 PB11 (io), 25 PB12 (io), 26 PB13 (io), 27 PB14 (io), 28 PB15 (io), 29 PA8 (io), 30 PA9 (io), 31 PA10 (io), 32 PA11 (io), 33 PA12 (io), 34 PA13 (io), 37 PA14 (io), 38 PA15 (io), 39 PB3 (io), 40 PB4 (io), 41 PB5 (io), 42 PB6 (io), 43 PB7 (io), 44 BOOT0 (in), 45 PB8 (io), 46 PB9 (io)
part B pins: 1 VBAT (power), 8 VSSA (power), 9 VDDA (power), 23 VSS_1 (power), 24 VDD_1 (power), 35 VSS_2 (power), 36 VDD_2 (power), 47 VSS_3 (power), 48 VDD_3 (power)

## STM32F411CEU6
designator U?
footprint QFPN48
pins: 1 VBAT, 2 PC13, 3 PC14, 4 PC15, 5 PH0, 6 PH1, 7 NRST, 8 VSSA, 9 VDDA, 10 PA0, 11 PA1, 12 PA2, 13 PA3, 14 PA4, 15 PA5, 16 PA6, 17 PA7, 18 PB0, 19 PB1, 20 PB2, 21 PB10, 22 VCAP1, 23 VSS, 24 VDD, 25 PB12, 26 PB13, 27 PB14, 28 PB15, 29 PA8, 30 PA9, 31 PA10, 32 PA11, 33 PA12, 34 PA13, 35 VSS, 36 VDD, 37 PA14, 38 PA15, 39 PB3, 40 PB4, 41 PB5, 42 PB6, 43 PB7, 44 BOOT0, 45 PB8, 46 PB9, 47 VSS, 48 VDD, 49 PAD

## TDA2030
designator U
footprint TDA2030 (Model Description)
pins: 1 +IN, 2 -IN, 3 VEE, 4 OUT, 5 VCC

## TDA7293
designator *
footprint TDA7293 (Model Description)
pins: 1 STBY GND, 2 IN-, 3 IN+, 4 SGND, 5 CLIP DET, 6 BOOTSTRAP, 7 +VS(S), 8 -VS(S), 9 STBY, 10 MUTE, 11 BUFFER DRV, 12 BL, 13 +VS(P), 14 OUT, 15 -VS(P)

## TIL117
designator U?
footprint DIP6 (Model Description)
pins: 1 A, 2 K, 3 NC, 4 E, 5 C, 6 B

## TL431
designator D?
Manufacturer: Generic Components; Class: Discrete; SubClass: Diode - Switching; Published: 08/06/2000; Publisher: Altium Hobart Technology Centre
footprint TO-92
pins: 1 Ref, 2 A, 3 K

## TL494
designator *
footprint DIP16 (Model Description)
pins: 1 1IN+, 2 1IN-, 3 FB, 4 DTC, 5 CT, 6 RT, 7 GND, 8 C1, 9 E1, 10 E2, 11 C2, 12 VCC, 13 OC, 14 REF, 15 2IN-, 16 2IN+

## TL521-2
designator *
footprint DIP8 (Model Description)
pins: 1 A1, 2 K1, 3 A2, 4 K2, 5 E2, 6 C2, 7 E1, 8 C1

## TLC04
designator *
footprint SOP8 (Model Description)
pins: 1 CLKIN (in), 2 CLKR (in), 3 LS, 4 VCC- (power), 5 FLT-OUT (out), 6 AGND (power), 7 VCC+ (power), 8 FLT-IN (in)

## TLV2211
designator U?
footprint SOT-23A
pins: 1 IN+, 2 GND, 3 IN-, 4 OUT, 5 V+

## TMP007
designator U?
footprint DSBGA
pins: A1 DGND, A2 AGND, A3 V+, B1 ADR1, B3 SCL, C1 ADR0, C2 ALERT, C3 SDA

## TPS2829
designator *
footprint SOT23-5 (Small Outline Transistor (SOT23), 0.95 mm pitch; 5 pin, 2.90 mm L X 1.60 mm W X 1.45 mm H body)
pins: 1 NC, 2 GND, 3 IN, 4 OUT, 5 VCC

## TPS54332
designator U?
footprint HTSSOP8
pins: 1 BOOT, 2 VIN, 3 EN, 4 SS, 5 VSENSE, 6 COMP, 7 GND, 8 PH, 9 PowerPad

## TPS60403
designator U?
footprint SOT-23A (Model Description)
pins: 1 OUT, 2 IN, 3 Cfly-, 4 GND, 5 Cfly+

## TPS61175
designator U?
footprint SOP14
pins: 1 Vin, 2 EN, 3 FREQ, 4 SS, 5 COMP, 6 Syn, 7 AGND, 8 NC, 9 PGND, 10 PGND, 11 PGND, 12 FB, 13 SW, 14 SW

## TPS62740
designator U?
footprint WSON-12
pins: 1 VIN, 2 SW, 3 GND, 4 CTRL, 5 VOUT, 6 LOAD, 7 PG, 8 VSEL4, 9 VSEL3, 10 VSEL2, 11 VSEL1, 12 EN

## TPS610981
designator U?
footprint WSON-6
pins: 1 VMAIN, 2 SW, 3 VIN, 4 MODE, 5 VSUB, 6 GND

## TRAN2
designator *
footprint TRAN2 (Model Description)
pins: 1 IN1, 2 IN2, 3 A1, 4 AG, 5 A2, 6 B1, 7 BG, 8 B2

## TRAN-CT1
designator *
pins: 1, 2, 3, 4, 5, 6, 7, 8, 9

## TRAN_PT1
designator *
pins: 1, 2, 3, 4, 5, 6, 7, 8

## Trans CT
designator TR?
Center-Tapped Transformer (Coupled Inductor Model); Manufacturer: Generic Components; Class: Passive; Published: 08/06/2000; Publisher: Altium Hobart Technology Centre; SubClass: Transformer
footprint TRAN1 (Model Description)
pins: 1 Pri+, 2 Pri-, 3 Sec+, 4 SecCT, 5 Sec-

## TVS
designator TVS
footprint DO-214 (Model Description)
pins: 1  , 2  

## USB
designator U?
footprint USB
pins: 1 Vbus, 2 D+, 3 D-, 4 GND, 5 NC, 6 NC

## W25X40CL
designator U?
footprint SOP8
pins: 1 /CS, 2 D0, 3 /WP, 4 GND, 5 D1, 6 CLK, 7 /HOLD, 8 VCC

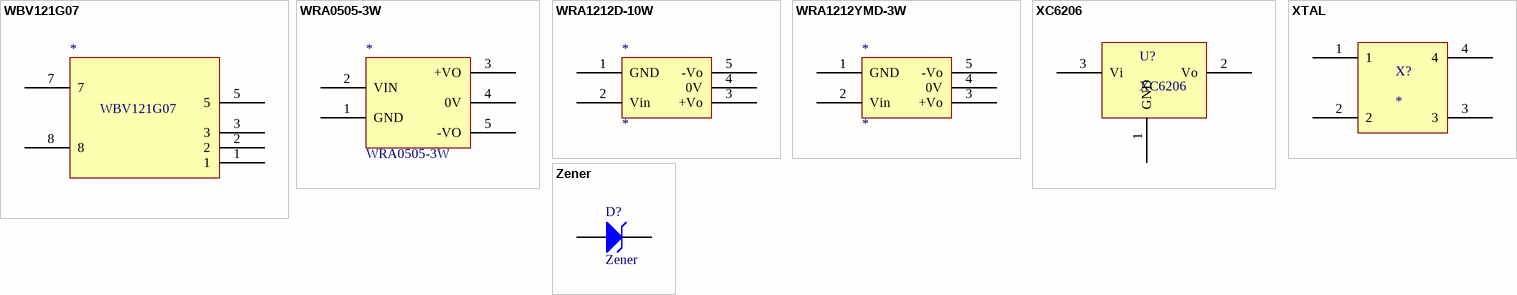
[diagram p7: symbols WBV121G07 to Zener]

## WBV121G07
designator *
footprint WBV121G07 (Model Description)
pins: 1, 2, 3, 5, 7, 8

## WRA0505-3W
designator *
footprint WRA0505-3W (Model Description)
pins: 1 GND, 2 VIN, 3 +VO, 4 0V, 5 -VO

## WRA1212D-10W
designator *
footprint WRA1212D-10W (Model Description)
pins: 1 GND, 2 Vin, 3 +Vo, 4 0V, 5 -Vo

## WRA1212YMD-3W
designator *
footprint WRA1212YWD-3W (Model Description)
pins: 1 GND, 2 Vin, 3 +Vo, 4 0V, 5 -Vo

## XC6206
designator U?
footprint SOT- 23
pins: 1 GND, 2 Vo, 3 Vi

## XTAL
designator X?
footprint MC306
footprint SMD4_5032
footprint 14.31818MHZ
footprint 25MHZ
pins: 1, 2, 3, 4

## Zener
designator D?
Default Diode; Manufacturer: Generic Components; Class: Discrete; SubClass: Diode - Switching; Published: 08/06/2000; Publisher: Altium Hobart Technology Centre
footprint TO-92 - 2
pins: 1 A, 2 K